# Altium schematic symbol library FPGA_Xilinx_Kintex7.SchLib: 18 symbols (part 3 of 6)
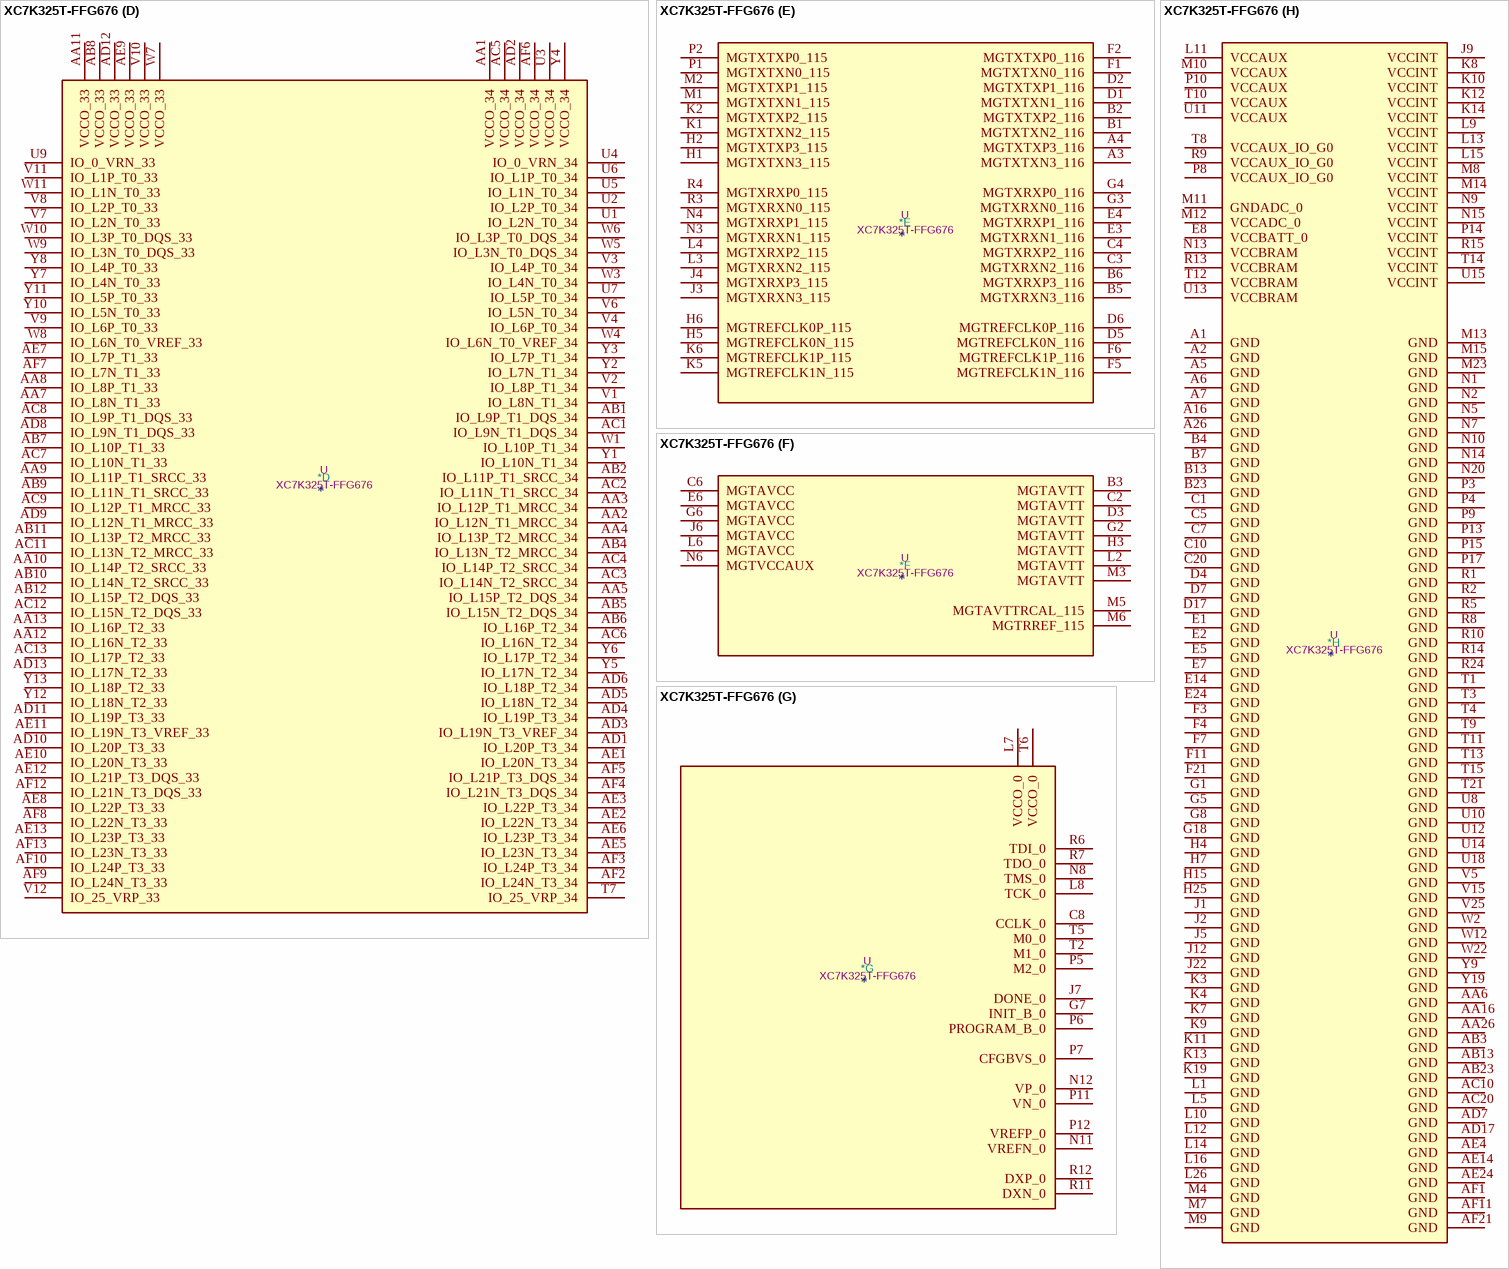
[diagram p54: symbol XC7K325T-FFG676]

## XC7K325T-FFG676
designator *  value XC7K325T-FFG676  Reference: U
Kintex 7 T 325 XC7K325T-FFG676; ki_keywords: FPGA; Description_: Kintex 7 T 325 XC7K325T-FFG676
part A pins: AA21 VCCO_12, AA22 IO_L13N_T2_MRCC_12, AA23 IO_L11P_T1_SRCC_12, AA24 IO_L12N_T1_MRCC_12, AA25 IO_L7P_T1_12, AB21 IO_L18P_T2_12, AB22 IO_L17P_T2_12, AB24 IO_L11N_T1_SRCC_12, AB25 IO_L7N_T1_12, AB26 IO_L9P_T1_DQS_12, AC21 IO_L18N_T2_12, AC22 IO_L17N_T2_12, AC23 IO_L14P_T2_SRCC_12, AC24 IO_L14N_T2_SRCC_12, AC25 VCCO_12, AC26 IO_L9N_T1_DQS_12, AD21 IO_L19P_T3_12, AD22 VCCO_12, AD23 IO_L16P_T2_12, AD24 IO_L16N_T2_12, AD25 IO_L23P_T3_12, AD26 IO_L21P_T3_DQS_12, AE21 IO_L19N_T3_VREF_12, AE22 IO_L24P_T3_12, AE23 IO_L22P_T3_12, AE25 IO_L23N_T3_12, AE26 IO_L21N_T3_DQS_12, AF22 IO_L24N_T3_12, AF23 IO_L22N_T3_12, AF24 IO_L20P_T3_12, AF25 IO_L20N_T3_12, AF26 VCCO_12, K24 VCCO_13, K25 IO_L1P_T0_13, K26 IO_L1N_T0_13, L24 IO_L8N_T1_13, L25 IO_L3N_T0_DQS_13, M19 IO_L22N_T3_13, M20 IO_L7N_T1_13, M21 IO_L10P_T1_13, M22 IO_L10N_T1_13, M24 IO_L8P_T1_13, M25 IO_L3P_T0_DQS_13, M26 IO_L5N_T0_13, N16 IO_0_13, N17 IO_L20N_T3_13, N18 IO_L22P_T3_13, N19 IO_L7P_T1_13, N21 IO_L12P_T1_MRCC_13, N22 IO_L12N_T1_MRCC_13, N23 IO_L11N_T1_SRCC_13, N24 IO_L4N_T0_13, N25 VCCO_13, N26 IO_L5P_T0_13, P16 IO_L20P_T3_13, P18 IO_L24N_T3_13, P19 IO_L9P_T1_DQS_13, P20 IO_L9N_T1_DQS_13, P21 IO_L13N_T2_MRCC_13, P22 VCCO_13, P23 IO_L11P_T1_SRCC_13, P24 IO_L4P_T0_13, P25 IO_L6N_T0_VREF_13, P26 IO_L2N_T0_13, R16 IO_L21P_T3_DQS_13, R17 IO_L21N_T3_DQS_13, R18 IO_L24P_T3_13, R19 VCCO_13, R20 IO_L16N_T2_13, R21 IO_L13P_T2_MRCC_13, R22 IO_L14P_T2_SRCC_13, R23 IO_L14N_T2_SRCC_13, R25 IO_L6P_T0_13, R26 IO_L2P_T0_13, T16 VCCO_13, T17 IO_L23N_T3_13, T18 IO_L19P_T3_13, T19 IO_L19N_T3_VREF_13, T20 IO_L16P_T2_13, T22 IO_L17P_T2_13, T23 IO_L17N_T2_13, T24 IO_L15P_T2_DQS_13, T25 IO_L15N_T2_DQS_13, T26 VCCO_13, U16 IO_25_13, U17 IO_L23P_T3_13, U19 IO_L18P_T2_13, U20 IO_L18N_T2_13, U21 IO_0_12, U22 IO_L1P_T0_12, U23 VCCO_12, U24 IO_L2P_T0_12, U25 IO_L2N_T0_12, U26 IO_L4P_T0_12, V20 VCCO_12, V21 IO_L6P_T0_12, V22 IO_L1N_T0_12, V23 IO_L3P_T0_DQS_12, V24 IO_L3N_T0_DQS_12, V26 IO_L4N_T0_12, W20 IO_L15P_T2_DQS_12, W21 IO_L6N_T0_VREF_12, W23 IO_L8P_T1_12, W24 IO_L8N_T1_12, W25 IO_L5P_T0_12, W26 IO_L5N_T0_12, Y20 IO_25_12, Y21 IO_L15N_T2_DQS_12, Y22 IO_L13P_T2_MRCC_12, Y23 IO_L12P_T1_MRCC_12, Y24 VCCO_12, Y25 IO_L10P_T1_12, Y26 IO_L10N_T1_12
part B pins: A17 IO_L3N_T0_DQS_AD1N_15, A18 IO_L2P_T0_AD8P_15, A19 IO_L2N_T0_AD8N_15, A20 IO_L8N_T1_D12_14, A21 VCCO_14, A22 IO_L2N_T0_D03_14, A23 IO_L4P_T0_D04_14, A24 IO_L4N_T0_D05_14, A25 IO_L1N_T0_D01_DIN_14, B16 IO_L1N_T0_AD0N_15, B17 IO_L3P_T0_DQS_AD1P_15, B18 VCCO_15, B19 IO_L4N_T0_AD9N_15, B20 IO_L8P_T1_D11_14, B21 IO_L10N_T1_D15_14, B22 IO_L2P_T0_D02_14, B24 IO_L1P_T0_D00_MOSI_14, B25 IO_L3P_T0_DQS_PUDC_B_14, B26 IO_L3N_T0_DQS_EMCCLK_14, C16 IO_L1P_T0_AD0P_15, C17 IO_L5P_T0_AD2P_15, C18 IO_L5N_T0_AD2N_15, C19 IO_L4P_T0_AD9P_15, C21 IO_L10P_T1_D14_14, C22 IO_L7N_T1_D10_14, C23 IO_L6P_T0_FCS_B_14, C24 IO_L6N_T0_D08_VREF_14, C25 VCCO_14, C26 IO_L5N_T0_D07_14, D15 IO_L6P_T0_15, D16 IO_L6N_T0_VREF_15, D18 IO_L13N_T2_MRCC_15, D19 IO_L15P_T2_DQS_15, D20 IO_L15N_T2_DQS_ADV_B_15, D21 IO_L7P_T1_D09_14, D22 VCCO_14, D23 IO_L11P_T1_SRCC_14, D24 IO_L11N_T1_SRCC_14, D25 IO_L15N_T2_DQS_DOUT_CSO_B_14, D26 IO_L5P_T0_D06_14, E15 IO_L10P_T1_AD4P_15, E16 IO_L10N_T1_AD4N_15, E17 IO_L12N_T1_MRCC_AD5N_15, E18 IO_L13P_T2_MRCC_15, E19 VCCO_15, E20 IO_L17N_T2_A25_15, E21 IO_L9P_T1_DQS_14, E22 IO_L9N_T1_DQS_D13_14, E23 IO_L12N_T1_MRCC_14, E25 IO_L15P_T2_DQS_RDWR_B_14, E26 IO_L17N_T2_A13_D29_14, F15 IO_L8N_T1_AD3N_15, F16 VCCO_15, F17 IO_L12P_T1_MRCC_AD5P_15, F18 IO_L11N_T1_SRCC_AD12N_15, F19 IO_L17P_T2_A26_15, F20 IO_L16N_T2_A27_15, F22 IO_L12P_T1_MRCC_14, F23 IO_L13N_T2_MRCC_14, F24 IO_L14N_T2_SRCC_14, F25 IO_L17P_T2_A14_D30_14, F26 VCCO_14, G15 IO_L8P_T1_AD3P_15, G16 IO_L7N_T1_AD10N_15, G17 IO_L11P_T1_SRCC_AD12P_15, G19 IO_L16P_T2_A28_15, G20 IO_L18N_T2_A23_15, G21 IO_L19N_T3_A09_D25_VREF_14, G22 IO_L13P_T2_MRCC_14, G23 VCCO_14, G24 IO_L14P_T2_SRCC_14, G25 IO_L16P_T2_CSI_B_14, G26 IO_L16N_T2_A15_D31_14, H16 IO_L7P_T1_AD10P_15, H17 IO_L14P_T2_SRCC_15, H18 IO_L14N_T2_SRCC_15, H19 IO_L18P_T2_A24_15, H20 VCCO_15, H21 IO_L19P_T3_A10_D26_14, H22 IO_L21N_T3_DQS_A06_D22_14, H23 IO_L20P_T3_A08_D24_14, H24 IO_L20N_T3_A07_D23_14, H26 IO_L18N_T2_A11_D27_14, J15 IO_L9P_T1_DQS_AD11P_15, J16 IO_L9N_T1_DQS_AD11N_15, J17 VCCO_15, J18 IO_L20P_T3_A20_15, J19 IO_L20N_T3_A19_15, J20 IO_L19N_T3_A21_VREF_15, J21 IO_L21P_T3_DQS_14, J23 IO_L24N_T3_A00_D16_14, J24 IO_L22P_T3_A05_D21_14, J25 IO_L22N_T3_A04_D20_14, J26 IO_L18P_T2_A12_D28_14, K15 IO_0_15, K16 IO_L22P_T3_A17_15, K17 IO_L22N_T3_A16_15, K18 IO_L24N_T3_RS0_15, K20 IO_L19P_T3_A22_15, K21 IO_0_14, K22 IO_L23N_T3_A02_D18_14, K23 IO_L24P_T3_A01_D17_14, L17 IO_L24P_T3_RS1_15, L18 IO_L23N_T3_FWE_B_15, L19 IO_L21P_T3_DQS_15, L20 IO_L21N_T3_DQS_A18_15, L21 VCCO_14, L22 IO_L23P_T3_A03_D19_14, L23 IO_25_14, M16 IO_25_15, M17 IO_L23P_T3_FOE_B_15, M18 VCCO_15
part C pins: A8 IO_L9N_T1_DQS_16, A9 IO_L9P_T1_DQS_16, A10 IO_L22N_T3_16, A11 VCCO_16, A12 IO_L24N_T3_16, A13 IO_L24P_T3_16, A14 IO_L21N_T3_DQS_16, A15 IO_L23N_T3_16, AA14 IO_L7P_T1_32, AA15 IO_L7N_T1_32, AA17 IO_L11P_T1_SRCC_32, AA18 IO_L11N_T1_SRCC_32, AA19 IO_L16P_T2_32, AA20 IO_L16N_T2_32, AB14 IO_L10P_T1_32, AB15 IO_L10N_T1_32, AB16 IO_L12P_T1_MRCC_32, AB17 IO_L14P_T2_SRCC_32, AB18 VCCO_32, AB19 IO_L18P_T2_32, AB20 IO_L18N_T2_32, AC14 IO_L8P_T1_32, AC15 VCCO_32, AC16 IO_L12N_T1_MRCC_32, AC17 IO_L14N_T2_SRCC_32, AC18 IO_L13P_T2_MRCC_32, AC19 IO_L17P_T2_32, AD14 IO_L8N_T1_32, AD15 IO_L4P_T0_32, AD16 IO_L6P_T0_32, AD18 IO_L13N_T2_MRCC_32, AD19 IO_L17N_T2_32, AD20 IO_L15P_T2_DQS_32, AE15 IO_L4N_T0_32, AE16 IO_L6N_T0_VREF_32, AE17 IO_L1P_T0_32, AE18 IO_L3P_T0_DQS_32, AE19 VCCO_32, AE20 IO_L15N_T2_DQS_32, AF14 IO_L2P_T0_32, AF15 IO_L2N_T0_32, AF16 VCCO_32, AF17 IO_L1N_T0_32, AF18 IO_L3N_T0_DQS_32, AF19 IO_L5P_T0_32, AF20 IO_L5N_T0_32, B8 VCCO_16, B9 IO_L10N_T1_16, B10 IO_L22P_T3_16, B11 IO_L20N_T3_16, B12 IO_L20P_T3_16, B14 IO_L21P_T3_DQS_16, B15 IO_L23P_T3_16, C9 IO_L10P_T1_16, C11 IO_L13N_T2_MRCC_16, C12 IO_L13P_T2_MRCC_16, C13 IO_L19N_T3_VREF_16, C14 IO_L19P_T3_16, C15 VCCO_16, D8 IO_L8N_T1_16, D9 IO_L8P_T1_16, D10 IO_L12N_T1_MRCC_16, D11 IO_L14N_T2_SRCC_16, D12 VCCO_16, D13 IO_L17N_T2_16, D14 IO_L17P_T2_16, E9 VCCO_16, E10 IO_L12P_T1_MRCC_16, E11 IO_L14P_T2_SRCC_16, E12 IO_L18N_T2_16, E13 IO_L18P_T2_16, F8 IO_L7N_T1_16, F9 IO_L7P_T1_16, F10 IO_L11N_T1_SRCC_16, F12 IO_L16N_T2_16, F13 IO_L15N_T2_DQS_16, F14 IO_L15P_T2_DQS_16, G9 IO_L2N_T0_16, G10 IO_L2P_T0_16, G11 IO_L11P_T1_SRCC_16, G12 IO_L16P_T2_16, G13 VCCO_16, G14 IO_L5N_T0_16, H8 IO_L1N_T0_16, H9 IO_L1P_T0_16, H10 VCCO_16, H11 IO_L6N_T0_VREF_16, H12 IO_L6P_T0_16, H13 IO_L3N_T0_DQS_16, H14 IO_L5P_T0_16, J8 IO_0_16, J10 IO_L4N_T0_16, J11 IO_L4P_T0_16, J13 IO_L3P_T0_DQS_16, J14 IO_25_16, V13 IO_0_VRN_32, V14 IO_L24P_T3_32, V16 IO_L20P_T3_32, V17 IO_L20N_T3_32, V18 IO_L23P_T3_32, V19 IO_L23N_T3_32, W13 IO_25_VRP_32, W14 IO_L24N_T3_32, W15 IO_L22P_T3_32, W16 IO_L22N_T3_32, W17 VCCO_32, W18 IO_L21P_T3_DQS_32, W19 IO_L21N_T3_DQS_32, Y14 VCCO_32, Y15 IO_L9P_T1_DQS_32, Y16 IO_L9N_T1_DQS_32, Y17 IO_L19P_T3_32, Y18 IO_L19N_T3_VREF_32
part D pins: AA1 VCCO_34, AA2 IO_L12N_T1_MRCC_34, AA3 IO_L12P_T1_MRCC_34, AA4 IO_L13P_T2_MRCC_34, AA5 IO_L15P_T2_DQS_34, AA7 IO_L8N_T1_33, AA8 IO_L8P_T1_33, AA9 IO_L11P_T1_SRCC_33, AA10 IO_L14P_T2_SRCC_33, AA11 VCCO_33, AA12 IO_L16N_T2_33, AA13 IO_L16P_T2_33, AB1 IO_L9P_T1_DQS_34, AB2 IO_L11P_T1_SRCC_34, AB4 IO_L13N_T2_MRCC_34, AB5 IO_L15N_T2_DQS_34, AB6 IO_L16P_T2_34, AB7 IO_L10P_T1_33, AB8 VCCO_33, AB9 IO_L11N_T1_SRCC_33, AB10 IO_L14N_T2_SRCC_33, AB11 IO_L13P_T2_MRCC_33, AB12 IO_L15P_T2_DQS_33, AC1 IO_L9N_T1_DQS_34, AC2 IO_L11N_T1_SRCC_34, AC3 IO_L14N_T2_SRCC_34, AC4 IO_L14P_T2_SRCC_34, AC5 VCCO_34, AC6 IO_L16N_T2_34, AC7 IO_L10N_T1_33, AC8 IO_L9P_T1_DQS_33, AC9 IO_L12P_T1_MRCC_33, AC11 IO_L13N_T2_MRCC_33, AC12 IO_L15N_T2_DQS_33, AC13 IO_L17P_T2_33, AD1 IO_L20P_T3_34, AD2 VCCO_34, AD3 IO_L19N_T3_VREF_34, AD4 IO_L19P_T3_34, AD5 IO_L18N_T2_34, AD6 IO_L18P_T2_34, AD8 IO_L9N_T1_DQS_33, AD9 IO_L12N_T1_MRCC_33, AD10 IO_L20P_T3_33, AD11 IO_L19P_T3_33, AD12 VCCO_33, AD13 IO_L17N_T2_33, AE1 IO_L20N_T3_34, AE2 IO_L22N_T3_34, AE3 IO_L22P_T3_34, AE5 IO_L23N_T3_34, AE6 IO_L23P_T3_34, AE7 IO_L7P_T1_33, AE8 IO_L22P_T3_33, AE9 VCCO_33, AE10 IO_L20N_T3_33, AE11 IO_L19N_T3_VREF_33, AE12 IO_L21P_T3_DQS_33, AE13 IO_L23P_T3_33, AF2 IO_L24N_T3_34, AF3 IO_L24P_T3_34, AF4 IO_L21N_T3_DQS_34, AF5 IO_L21P_T3_DQS_34, AF6 VCCO_34, AF7 IO_L7N_T1_33, AF8 IO_L22N_T3_33, AF9 IO_L24N_T3_33, AF10 IO_L24P_T3_33, AF12 IO_L21N_T3_DQS_33, AF13 IO_L23N_T3_33, T7 IO_25_VRP_34, U1 IO_L2N_T0_34, U2 IO_L2P_T0_34, U3 VCCO_34, U4 IO_0_VRN_34, U5 IO_L1N_T0_34, U6 IO_L1P_T0_34, U7 IO_L5P_T0_34, U9 IO_0_VRN_33, V1 IO_L8N_T1_34, V2 IO_L8P_T1_34, V3 IO_L4P_T0_34, V4 IO_L6P_T0_34, V6 IO_L5N_T0_34, V7 IO_L2N_T0_33, V8 IO_L2P_T0_33, V9 IO_L6P_T0_33, V10 VCCO_33, V11 IO_L1P_T0_33, V12 IO_25_VRP_33, W1 IO_L10P_T1_34, W3 IO_L4N_T0_34, W4 IO_L6N_T0_VREF_34, W5 IO_L3N_T0_DQS_34, W6 IO_L3P_T0_DQS_34, W7 VCCO_33, W8 IO_L6N_T0_VREF_33, W9 IO_L3N_T0_DQS_33, W10 IO_L3P_T0_DQS_33, W11 IO_L1N_T0_33, Y1 IO_L10N_T1_34, Y2 IO_L7N_T1_34, Y3 IO_L7P_T1_34, Y4 VCCO_34, Y5 IO_L17N_T2_34, Y6 IO_L17P_T2_34, Y7 IO_L4N_T0_33, Y8 IO_L4P_T0_33, Y10 IO_L5N_T0_33, Y11 IO_L5P_T0_33, Y12 IO_L18N_T2_33, Y13 IO_L18P_T2_33
part E pins: A3 MGTXTXN3_116, A4 MGTXTXP3_116, B1 MGTXTXN2_116, B2 MGTXTXP2_116, B5 MGTXRXN3_116, B6 MGTXRXP3_116, C3 MGTXRXN2_116, C4 MGTXRXP2_116, D1 MGTXTXN1_116, D2 MGTXTXP1_116, D5 MGTREFCLK0N_116, D6 MGTREFCLK0P_116, E3 MGTXRXN1_116, E4 MGTXRXP1_116, F1 MGTXTXN0_116, F2 MGTXTXP0_116, F5 MGTREFCLK1N_116, F6 MGTREFCLK1P_116, G3 MGTXRXN0_116, G4 MGTXRXP0_116, H1 MGTXTXN3_115, H2 MGTXTXP3_115, H5 MGTREFCLK0N_115, H6 MGTREFCLK0P_115, J3 MGTXRXN3_115, J4 MGTXRXP3_115, K1 MGTXTXN2_115, K2 MGTXTXP2_115, K5 MGTREFCLK1N_115, K6 MGTREFCLK1P_115, L3 MGTXRXN2_115, L4 MGTXRXP2_115, M1 MGTXTXN1_115, M2 MGTXTXP1_115, N3 MGTXRXN1_115, N4 MGTXRXP1_115, P1 MGTXTXN0_115, P2 MGTXTXP0_115, R3 MGTXRXN0_115, R4 MGTXRXP0_115
part F pins: B3 MGTAVTT, C2 MGTAVTT, C6 MGTAVCC, D3 MGTAVTT, E6 MGTAVCC, G2 MGTAVTT, G6 MGTAVCC, H3 MGTAVTT, J6 MGTAVCC, L2 MGTAVTT, L6 MGTAVCC, M3 MGTAVTT, M5 MGTAVTTRCAL_115, M6 MGTRREF_115, N6 MGTVCCAUX
part G pins: C8 CCLK_0, G7 INIT_B_0, J7 DONE_0, L7 VCCO_0, L8 TCK_0, N8 TMS_0, N11 VREFN_0, N12 VP_0, P5 M2_0, P6 PROGRAM_B_0, P7 CFGBVS_0, P11 VN_0, P12 VREFP_0, R6 TDI_0, R7 TDO_0, R11 DXN_0, R12 DXP_0, T2 M1_0, T5 M0_0, T6 VCCO_0
part H pins: A1 GND, A2 GND, A5 GND, A6 GND, A7 GND, A16 GND, A26 GND, AA6 GND, AA16 GND, AA26 GND, AB3 GND, AB13 GND, AB23 GND, AC10 GND, AC20 GND, AD7 GND, AD17 GND, AE4 GND, AE14 GND, AE24 GND, AF1 GND, AF11 GND, AF21 GND, B4 GND, B7 GND, B13 GND, B23 GND, C1 GND, C5 GND, C7 GND, C10 GND, C20 GND, D4 GND, D7 GND, D17 GND, E1 GND, E2 GND, E5 GND, E7 GND, E8 VCCBATT_0, E14 GND, E24 GND, F3 GND, F4 GND, F7 GND, F11 GND, F21 GND, G1 GND, G5 GND, G8 GND, G18 GND, H4 GND, H7 GND, H15 GND, H25 GND, J1 GND, J2 GND, J5 GND, J9 VCCINT, J12 GND, J22 GND, K3 GND, K4 GND, K7 GND, K8 VCCINT, K9 GND, K10 VCCINT, K11 GND, K12 VCCINT, K13 GND, K14 VCCINT, K19 GND, L1 GND, L5 GND, L9 VCCINT, L10 GND, L11 VCCAUX, L12 GND, L13 VCCINT, L14 GND, L15 VCCINT, L16 GND, L26 GND, M4 GND, M7 GND, M8 VCCINT, M9 GND, M10 VCCAUX, M11 GNDADC_0, M12 VCCADC_0, M13 GND, M14 VCCINT, M15 GND, M23 GND, N1 GND, N2 GND, N5 GND, N7 GND, N9 VCCINT, N10 GND, N13 VCCBRAM, N14 GND, N15 VCCINT, N20 GND, P3 GND, P4 GND, P8 VCCAUX_IO_G0, P9 GND, P10 VCCAUX, P13 GND, P14 VCCINT, P15 GND, P17 GND, R1 GND, R2 GND, R5 GND, R8 GND, R9 VCCAUX_IO_G0, R10 GND, R13 VCCBRAM, R14 GND, R15 VCCINT, R24 GND, T1 GND, T3 GND, T4 GND, T8 VCCAUX_IO_G0, T9 GND, T10 VCCAUX, T11 GND, T12 VCCBRAM, T13 GND, T14 VCCINT, T15 GND, T21 GND, U8 GND, U10 GND, U11 VCCAUX, U12 GND, U13 VCCBRAM, U14 GND, U15 VCCINT, U18 GND, V5 GND, V15 GND, V25 GND, W2 GND, W12 GND, W22 GND, Y9 GND, Y19 GND

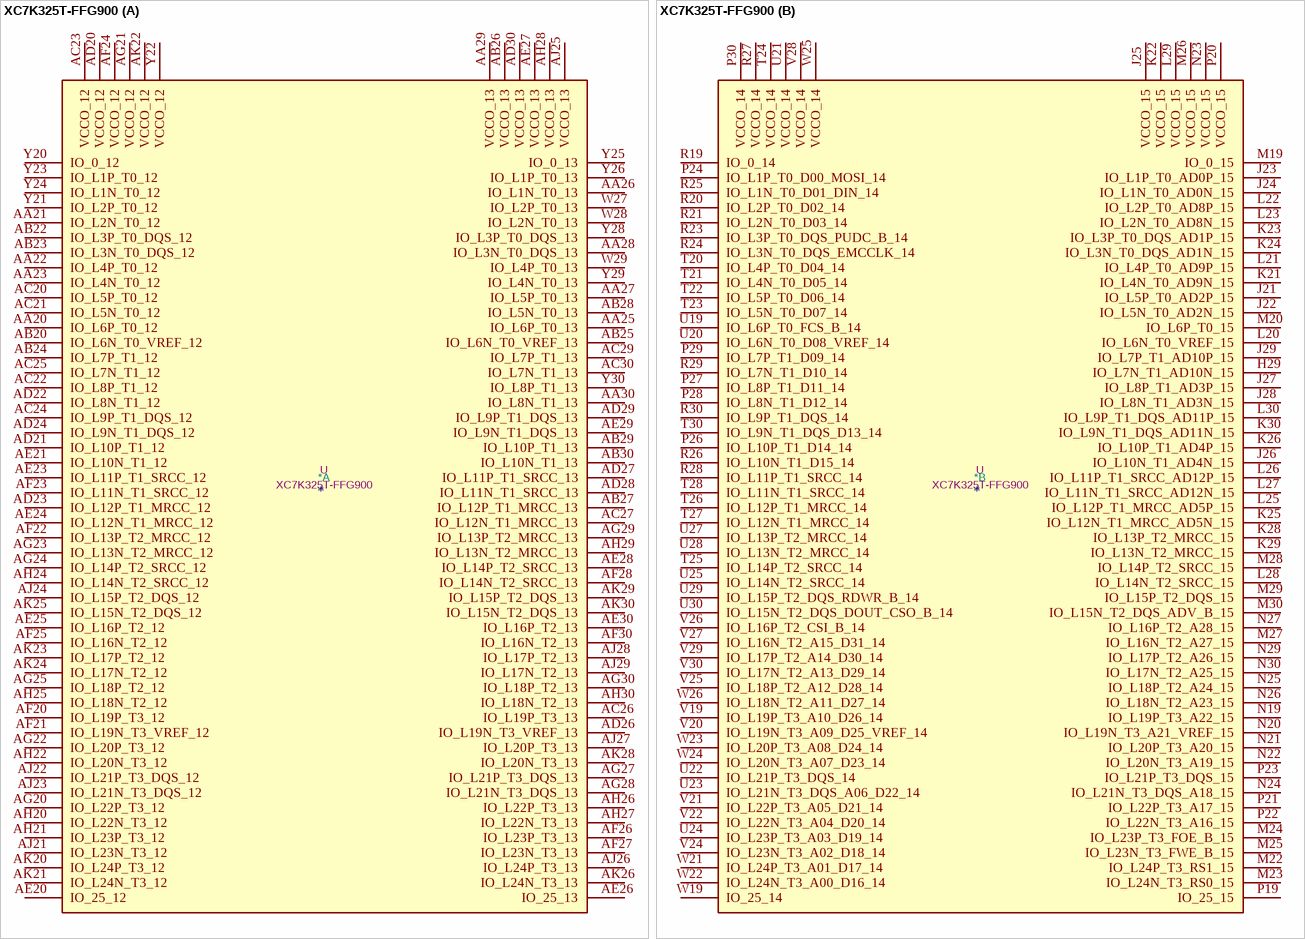
[diagram p20: symbol XC7K325T-FFG900]

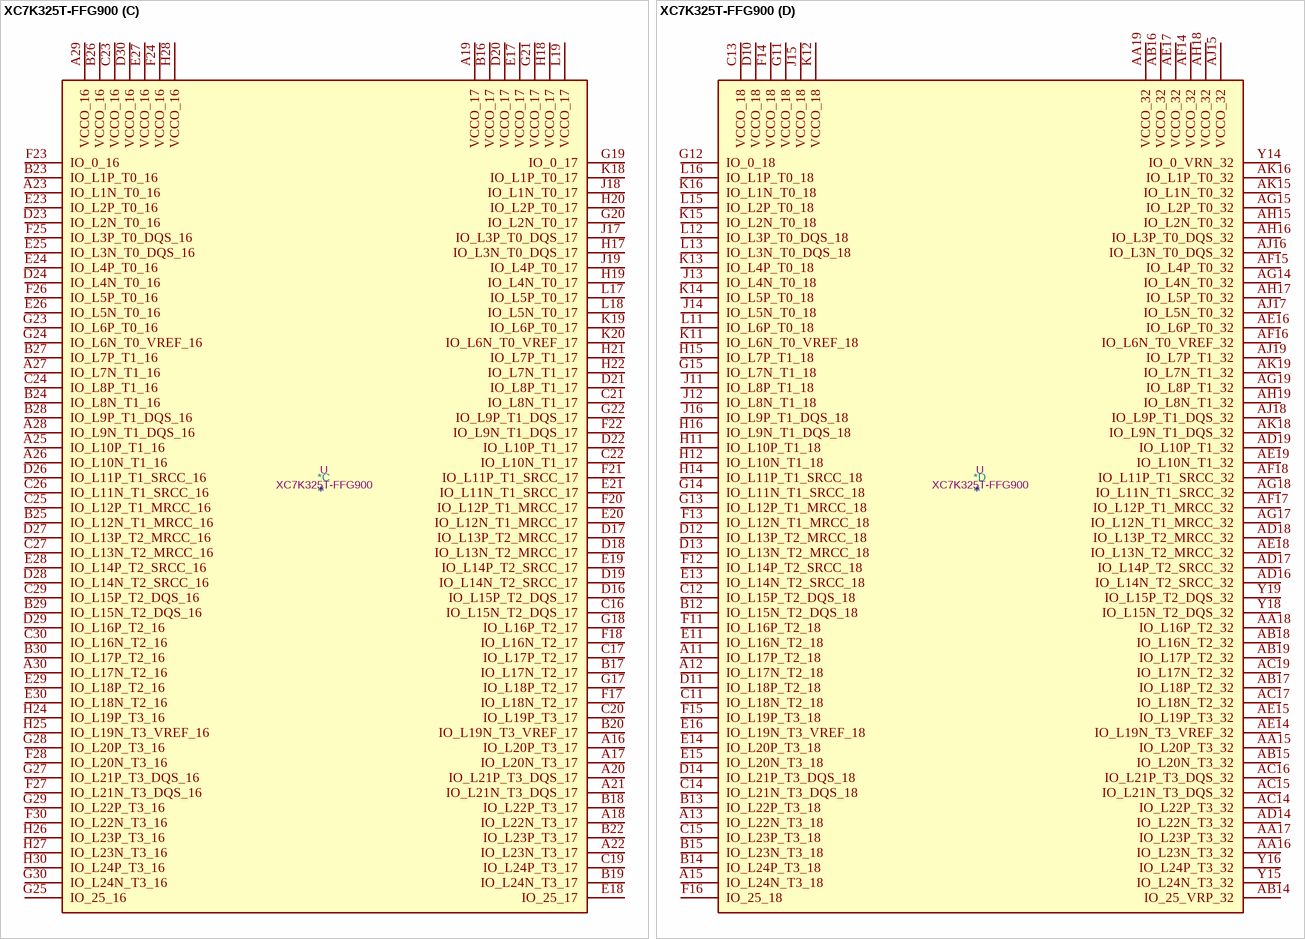
[diagram p21: symbol XC7K325T-FFG900]

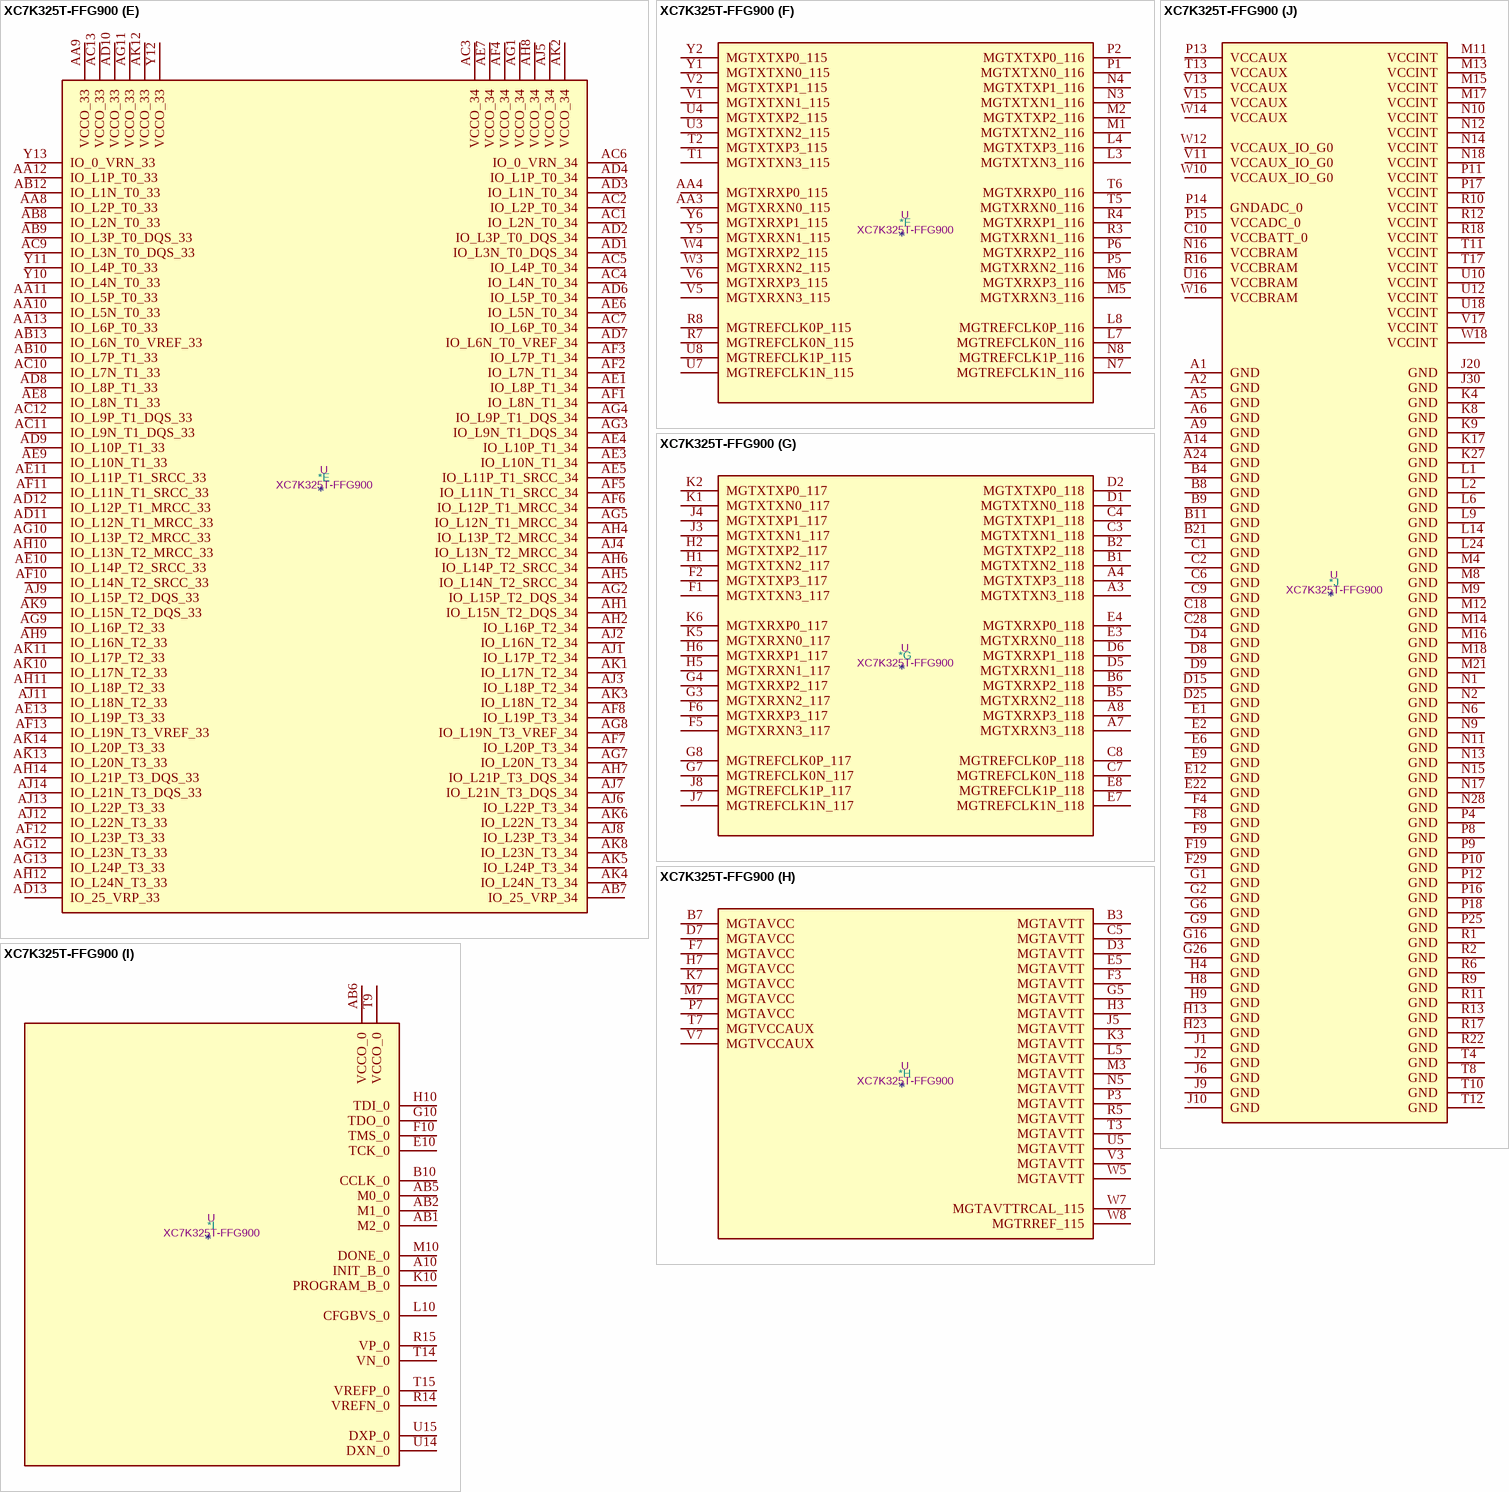
[diagram p22: symbol XC7K325T-FFG900]

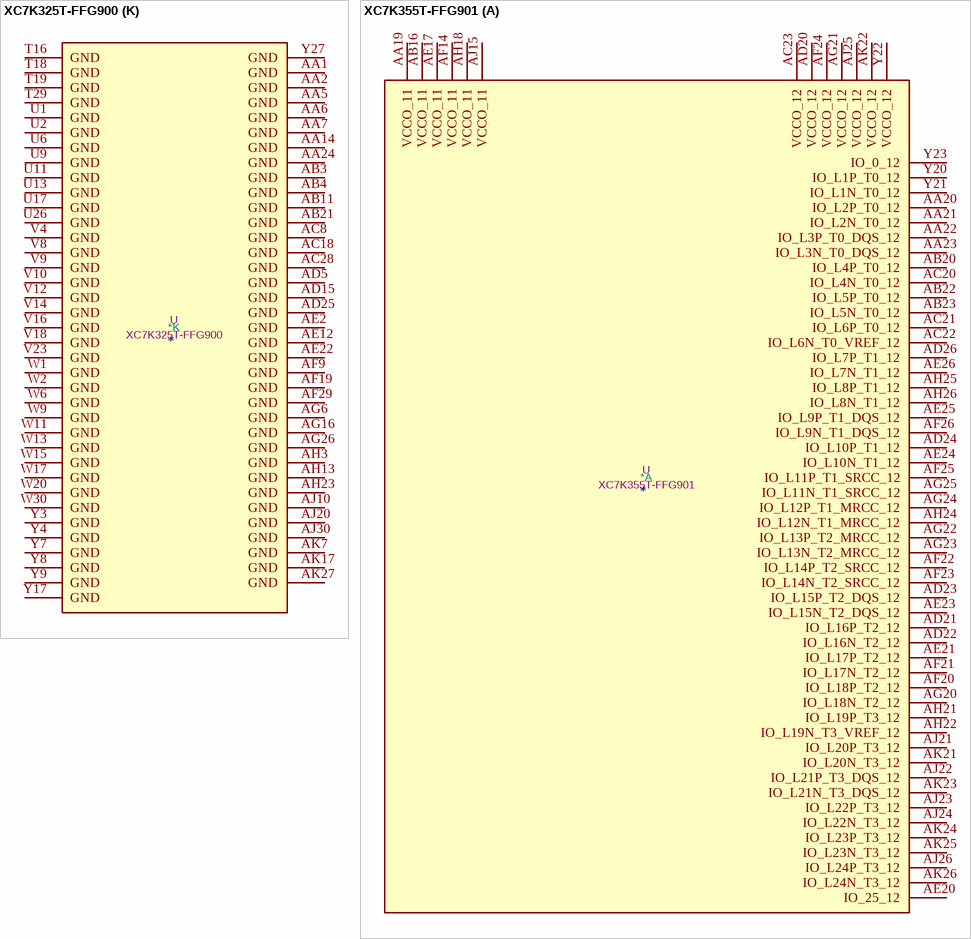
[diagram p23: symbols XC7K325T-FFG900 to XC7K355T-FFG901]

## XC7K325T-FFG900
designator *  value XC7K325T-FFG900  Reference: U
Kintex 7 T 325 XC7K325T-FFG900; ki_keywords: FPGA; Description_: Kintex 7 T 325 XC7K325T-FFG900
part A pins: AA20 IO_L6P_T0_12, AA21 IO_L2N_T0_12, AA22 IO_L4P_T0_12, AA23 IO_L4N_T0_12, AA25 IO_L6P_T0_13, AA26 IO_L1N_T0_13, AA27 IO_L5P_T0_13, AA28 IO_L3N_T0_DQS_13, AA29 VCCO_13, AA30 IO_L8N_T1_13, AB20 IO_L6N_T0_VREF_12, AB22 IO_L3P_T0_DQS_12, AB23 IO_L3N_T0_DQS_12, AB24 IO_L7P_T1_12, AB25 IO_L6N_T0_VREF_13, AB26 VCCO_13, AB27 IO_L12P_T1_MRCC_13, AB28 IO_L5N_T0_13, AB29 IO_L10P_T1_13, AB30 IO_L10N_T1_13, AC20 IO_L5P_T0_12, AC21 IO_L5N_T0_12, AC22 IO_L8P_T1_12, AC23 VCCO_12, AC24 IO_L9P_T1_DQS_12, AC25 IO_L7N_T1_12, AC26 IO_L19P_T3_13, AC27 IO_L12N_T1_MRCC_13, AC29 IO_L7P_T1_13, AC30 IO_L7N_T1_13, AD20 VCCO_12, AD21 IO_L10P_T1_12, AD22 IO_L8N_T1_12, AD23 IO_L12P_T1_MRCC_12, AD24 IO_L9N_T1_DQS_12, AD26 IO_L19N_T3_VREF_13, AD27 IO_L11P_T1_SRCC_13, AD28 IO_L11N_T1_SRCC_13, AD29 IO_L9P_T1_DQS_13, AD30 VCCO_13, AE20 IO_25_12, AE21 IO_L10N_T1_12, AE23 IO_L11P_T1_SRCC_12, AE24 IO_L12N_T1_MRCC_12, AE25 IO_L16P_T2_12, AE26 IO_25_13, AE27 VCCO_13, AE28 IO_L14P_T2_SRCC_13, AE29 IO_L9N_T1_DQS_13, AE30 IO_L16P_T2_13, AF20 IO_L19P_T3_12, AF21 IO_L19N_T3_VREF_12, AF22 IO_L13P_T2_MRCC_12, AF23 IO_L11N_T1_SRCC_12, AF24 VCCO_12, AF25 IO_L16N_T2_12, AF26 IO_L23P_T3_13, AF27 IO_L23N_T3_13, AF28 IO_L14N_T2_SRCC_13, AF30 IO_L16N_T2_13, AG20 IO_L22P_T3_12, AG21 VCCO_12, AG22 IO_L20P_T3_12, AG23 IO_L13N_T2_MRCC_12, AG24 IO_L14P_T2_SRCC_12, AG25 IO_L18P_T2_12, AG27 IO_L21P_T3_DQS_13, AG28 IO_L21N_T3_DQS_13, AG29 IO_L13P_T2_MRCC_13, AG30 IO_L18P_T2_13, AH20 IO_L22N_T3_12, AH21 IO_L23P_T3_12, AH22 IO_L20N_T3_12, AH24 IO_L14N_T2_SRCC_12, AH25 IO_L18N_T2_12, AH26 IO_L22P_T3_13, AH27 IO_L22N_T3_13, AH28 VCCO_13, AH29 IO_L13N_T2_MRCC_13, AH30 IO_L18N_T2_13, AJ21 IO_L23N_T3_12, AJ22 IO_L21P_T3_DQS_12, AJ23 IO_L21N_T3_DQS_12, AJ24 IO_L15P_T2_DQS_12, AJ25 VCCO_13, AJ26 IO_L24P_T3_13, AJ27 IO_L20P_T3_13, AJ28 IO_L17P_T2_13, AJ29 IO_L17N_T2_13, AK20 IO_L24P_T3_12, AK21 IO_L24N_T3_12, AK22 VCCO_12, AK23 IO_L17P_T2_12, AK24 IO_L17N_T2_12, AK25 IO_L15N_T2_DQS_12, AK26 IO_L24N_T3_13, AK28 IO_L20N_T3_13, AK29 IO_L15P_T2_DQS_13, AK30 IO_L15N_T2_DQS_13, W27 IO_L2P_T0_13, W28 IO_L2N_T0_13, W29 IO_L4P_T0_13, Y20 IO_0_12, Y21 IO_L2P_T0_12, Y22 VCCO_12, Y23 IO_L1P_T0_12, Y24 IO_L1N_T0_12, Y25 IO_0_13, Y26 IO_L1P_T0_13, Y28 IO_L3P_T0_DQS_13, Y29 IO_L4N_T0_13, Y30 IO_L8P_T1_13
part B pins: H29 IO_L7N_T1_AD10N_15, J21 IO_L5P_T0_AD2P_15, J22 IO_L5N_T0_AD2N_15, J23 IO_L1P_T0_AD0P_15, J24 IO_L1N_T0_AD0N_15, J25 VCCO_15, J26 IO_L10N_T1_AD4N_15, J27 IO_L8P_T1_AD3P_15, J28 IO_L8N_T1_AD3N_15, J29 IO_L7P_T1_AD10P_15, K21 IO_L4N_T0_AD9N_15, K22 VCCO_15, K23 IO_L3P_T0_DQS_AD1P_15, K24 IO_L3N_T0_DQS_AD1N_15, K25 IO_L12N_T1_MRCC_AD5N_15, K26 IO_L10P_T1_AD4P_15, K28 IO_L13P_T2_MRCC_15, K29 IO_L13N_T2_MRCC_15, K30 IO_L9N_T1_DQS_AD11N_15, L20 IO_L6N_T0_VREF_15, L21 IO_L4P_T0_AD9P_15, L22 IO_L2P_T0_AD8P_15, L23 IO_L2N_T0_AD8N_15, L25 IO_L12P_T1_MRCC_AD5P_15, L26 IO_L11P_T1_SRCC_AD12P_15, L27 IO_L11N_T1_SRCC_AD12N_15, L28 IO_L14N_T2_SRCC_15, L29 VCCO_15, L30 IO_L9P_T1_DQS_AD11P_15, M19 IO_0_15, M20 IO_L6P_T0_15, M22 IO_L24P_T3_RS1_15, M23 IO_L24N_T3_RS0_15, M24 IO_L23P_T3_FOE_B_15, M25 IO_L23N_T3_FWE_B_15, M26 VCCO_15, M27 IO_L16N_T2_A27_15, M28 IO_L14P_T2_SRCC_15, M29 IO_L15P_T2_DQS_15, M30 IO_L15N_T2_DQS_ADV_B_15, N19 IO_L19P_T3_A22_15, N20 IO_L19N_T3_A21_VREF_15, N21 IO_L20P_T3_A20_15, N22 IO_L20N_T3_A19_15, N23 VCCO_15, N24 IO_L21N_T3_DQS_A18_15, N25 IO_L18P_T2_A24_15, N26 IO_L18N_T2_A23_15, N27 IO_L16P_T2_A28_15, N29 IO_L17P_T2_A26_15, N30 IO_L17N_T2_A25_15, P19 IO_25_15, P20 VCCO_15, P21 IO_L22P_T3_A17_15, P22 IO_L22N_T3_A16_15, P23 IO_L21P_T3_DQS_15, P24 IO_L1P_T0_D00_MOSI_14, P26 IO_L10P_T1_D14_14, P27 IO_L8P_T1_D11_14, P28 IO_L8N_T1_D12_14, P29 IO_L7P_T1_D09_14, P30 VCCO_14, R19 IO_0_14, R20 IO_L2P_T0_D02_14, R21 IO_L2N_T0_D03_14, R23 IO_L3P_T0_DQS_PUDC_B_14, R24 IO_L3N_T0_DQS_EMCCLK_14, R25 IO_L1N_T0_D01_DIN_14, R26 IO_L10N_T1_D15_14, R27 VCCO_14, R28 IO_L11P_T1_SRCC_14, R29 IO_L7N_T1_D10_14, R30 IO_L9P_T1_DQS_14, T20 IO_L4P_T0_D04_14, T21 IO_L4N_T0_D05_14, T22 IO_L5P_T0_D06_14, T23 IO_L5N_T0_D07_14, T24 VCCO_14, T25 IO_L14P_T2_SRCC_14, T26 IO_L12P_T1_MRCC_14, T27 IO_L12N_T1_MRCC_14, T28 IO_L11N_T1_SRCC_14, T30 IO_L9N_T1_DQS_D13_14, U19 IO_L6P_T0_FCS_B_14, U20 IO_L6N_T0_D08_VREF_14, U21 VCCO_14, U22 IO_L21P_T3_DQS_14, U23 IO_L21N_T3_DQS_A06_D22_14, U24 IO_L23P_T3_A03_D19_14, U25 IO_L14N_T2_SRCC_14, U27 IO_L13P_T2_MRCC_14, U28 IO_L13N_T2_MRCC_14, U29 IO_L15P_T2_DQS_RDWR_B_14, U30 IO_L15N_T2_DQS_DOUT_CSO_B_14, V19 IO_L19P_T3_A10_D26_14, V20 IO_L19N_T3_A09_D25_VREF_14, V21 IO_L22P_T3_A05_D21_14, V22 IO_L22N_T3_A04_D20_14, V24 IO_L23N_T3_A02_D18_14, V25 IO_L18P_T2_A12_D28_14, V26 IO_L16P_T2_CSI_B_14, V27 IO_L16N_T2_A15_D31_14, V28 VCCO_14, V29 IO_L17P_T2_A14_D30_14, V30 IO_L17N_T2_A13_D29_14, W19 IO_25_14, W21 IO_L24P_T3_A01_D17_14, W22 IO_L24N_T3_A00_D16_14, W23 IO_L20P_T3_A08_D24_14, W24 IO_L20N_T3_A07_D23_14, W25 VCCO_14, W26 IO_L18N_T2_A11_D27_14
part C pins: A16 IO_L20P_T3_17, A17 IO_L20N_T3_17, A18 IO_L22N_T3_17, A19 VCCO_17, A20 IO_L21P_T3_DQS_17, A21 IO_L21N_T3_DQS_17, A22 IO_L23N_T3_17, A23 IO_L1N_T0_16, A25 IO_L10P_T1_16, A26 IO_L10N_T1_16, A27 IO_L7N_T1_16, A28 IO_L9N_T1_DQS_16, A29 VCCO_16, A30 IO_L17N_T2_16, B16 VCCO_17, B17 IO_L17N_T2_17, B18 IO_L22P_T3_17, B19 IO_L24N_T3_17, B20 IO_L19N_T3_VREF_17, B22 IO_L23P_T3_17, B23 IO_L1P_T0_16, B24 IO_L8N_T1_16, B25 IO_L12N_T1_MRCC_16, B26 VCCO_16, B27 IO_L7P_T1_16, B28 IO_L9P_T1_DQS_16, B29 IO_L15N_T2_DQS_16, B30 IO_L17P_T2_16, C16 IO_L15N_T2_DQS_17, C17 IO_L17P_T2_17, C19 IO_L24P_T3_17, C20 IO_L19P_T3_17, C21 IO_L8N_T1_17, C22 IO_L10N_T1_17, C23 VCCO_16, C24 IO_L8P_T1_16, C25 IO_L12P_T1_MRCC_16, C26 IO_L11N_T1_SRCC_16, C27 IO_L13N_T2_MRCC_16, C29 IO_L15P_T2_DQS_16, C30 IO_L16N_T2_16, D16 IO_L15P_T2_DQS_17, D17 IO_L13P_T2_MRCC_17, D18 IO_L13N_T2_MRCC_17, D19 IO_L14N_T2_SRCC_17, D20 VCCO_17, D21 IO_L8P_T1_17, D22 IO_L10P_T1_17, D23 IO_L2N_T0_16, D24 IO_L4N_T0_16, D26 IO_L11P_T1_SRCC_16, D27 IO_L13P_T2_MRCC_16, D28 IO_L14N_T2_SRCC_16, D29 IO_L16P_T2_16, D30 VCCO_16, E17 VCCO_17, E18 IO_25_17, E19 IO_L14P_T2_SRCC_17, E20 IO_L12N_T1_MRCC_17, E21 IO_L11N_T1_SRCC_17, E23 IO_L2P_T0_16, E24 IO_L4P_T0_16, E25 IO_L3N_T0_DQS_16, E26 IO_L5N_T0_16, E27 VCCO_16, E28 IO_L14P_T2_SRCC_16, E29 IO_L18P_T2_16, E30 IO_L18N_T2_16, F17 IO_L18N_T2_17, F18 IO_L16N_T2_17, F20 IO_L12P_T1_MRCC_17, F21 IO_L11P_T1_SRCC_17, F22 IO_L9N_T1_DQS_17, F23 IO_0_16, F24 VCCO_16, F25 IO_L3P_T0_DQS_16, F26 IO_L5P_T0_16, F27 IO_L21N_T3_DQS_16, F28 IO_L20N_T3_16, F30 IO_L22N_T3_16, G17 IO_L18P_T2_17, G18 IO_L16P_T2_17, G19 IO_0_17, G20 IO_L2N_T0_17, G21 VCCO_17, G22 IO_L9P_T1_DQS_17, G23 IO_L6P_T0_16, G24 IO_L6N_T0_VREF_16, G25 IO_25_16, G27 IO_L21P_T3_DQS_16, G28 IO_L20P_T3_16, G29 IO_L22P_T3_16, G30 IO_L24N_T3_16, H17 IO_L3N_T0_DQS_17, H18 VCCO_17, H19 IO_L4N_T0_17, H20 IO_L2P_T0_17, H21 IO_L7P_T1_17, H22 IO_L7N_T1_17, H24 IO_L19P_T3_16, H25 IO_L19N_T3_VREF_16, H26 IO_L23P_T3_16, H27 IO_L23N_T3_16, H28 VCCO_16, H30 IO_L24P_T3_16, J17 IO_L3P_T0_DQS_17, J18 IO_L1N_T0_17, J19 IO_L4P_T0_17, K18 IO_L1P_T0_17, K19 IO_L6P_T0_17, K20 IO_L6N_T0_VREF_17, L17 IO_L5P_T0_17, L18 IO_L5N_T0_17, L19 VCCO_17
part D pins: A11 IO_L17P_T2_18, A12 IO_L17N_T2_18, A13 IO_L22N_T3_18, A15 IO_L24N_T3_18, AA15 IO_L20P_T3_32, AA16 IO_L23N_T3_32, AA17 IO_L23P_T3_32, AA18 IO_L16P_T2_32, AA19 VCCO_32, AB14 IO_25_VRP_32, AB15 IO_L20N_T3_32, AB16 VCCO_32, AB17 IO_L18P_T2_32, AB18 IO_L16N_T2_32, AB19 IO_L17P_T2_32, AC14 IO_L22P_T3_32, AC15 IO_L21N_T3_DQS_32, AC16 IO_L21P_T3_DQS_32, AC17 IO_L18N_T2_32, AC19 IO_L17N_T2_32, AD14 IO_L22N_T3_32, AD16 IO_L14N_T2_SRCC_32, AD17 IO_L14P_T2_SRCC_32, AD18 IO_L13P_T2_MRCC_32, AD19 IO_L10P_T1_32, AE14 IO_L19N_T3_VREF_32, AE15 IO_L19P_T3_32, AE16 IO_L6P_T0_32, AE17 VCCO_32, AE18 IO_L13N_T2_MRCC_32, AE19 IO_L10N_T1_32, AF14 VCCO_32, AF15 IO_L4P_T0_32, AF16 IO_L6N_T0_VREF_32, AF17 IO_L12P_T1_MRCC_32, AF18 IO_L11P_T1_SRCC_32, AG14 IO_L4N_T0_32, AG15 IO_L2P_T0_32, AG17 IO_L12N_T1_MRCC_32, AG18 IO_L11N_T1_SRCC_32, AG19 IO_L8P_T1_32, AH15 IO_L2N_T0_32, AH16 IO_L3P_T0_DQS_32, AH17 IO_L5P_T0_32, AH18 VCCO_32, AH19 IO_L8N_T1_32, AJ15 VCCO_32, AJ16 IO_L3N_T0_DQS_32, AJ17 IO_L5N_T0_32, AJ18 IO_L9P_T1_DQS_32, AJ19 IO_L7P_T1_32, AK15 IO_L1N_T0_32, AK16 IO_L1P_T0_32, AK18 IO_L9N_T1_DQS_32, AK19 IO_L7N_T1_32, B12 IO_L15N_T2_DQS_18, B13 IO_L22P_T3_18, B14 IO_L24P_T3_18, B15 IO_L23N_T3_18, C11 IO_L18N_T2_18, C12 IO_L15P_T2_DQS_18, C13 VCCO_18, C14 IO_L21N_T3_DQS_18, C15 IO_L23P_T3_18, D10 VCCO_18, D11 IO_L18P_T2_18, D12 IO_L13P_T2_MRCC_18, D13 IO_L13N_T2_MRCC_18, D14 IO_L21P_T3_DQS_18, E11 IO_L16N_T2_18, E13 IO_L14N_T2_SRCC_18, E14 IO_L20P_T3_18, E15 IO_L20N_T3_18, E16 IO_L19N_T3_VREF_18, F11 IO_L16P_T2_18, F12 IO_L14P_T2_SRCC_18, F13 IO_L12N_T1_MRCC_18, F14 VCCO_18, F15 IO_L19P_T3_18, F16 IO_25_18, G11 VCCO_18, G12 IO_0_18, G13 IO_L12P_T1_MRCC_18, G14 IO_L11N_T1_SRCC_18, G15 IO_L7N_T1_18, H11 IO_L10P_T1_18, H12 IO_L10N_T1_18, H14 IO_L11P_T1_SRCC_18, H15 IO_L7P_T1_18, H16 IO_L9N_T1_DQS_18, J11 IO_L8P_T1_18, J12 IO_L8N_T1_18, J13 IO_L4N_T0_18, J14 IO_L5N_T0_18, J15 VCCO_18, J16 IO_L9P_T1_DQS_18, K11 IO_L6N_T0_VREF_18, K12 VCCO_18, K13 IO_L4P_T0_18, K14 IO_L5P_T0_18, K15 IO_L2N_T0_18, K16 IO_L1N_T0_18, L11 IO_L6P_T0_18, L12 IO_L3P_T0_DQS_18, L13 IO_L3N_T0_DQS_18, L15 IO_L2P_T0_18, L16 IO_L1P_T0_18, Y14 IO_0_VRN_32, Y15 IO_L24N_T3_32, Y16 IO_L24P_T3_32, Y18 IO_L15N_T2_DQS_32, Y19 IO_L15P_T2_DQS_32
part E pins: AA8 IO_L2P_T0_33, AA9 VCCO_33, AA10 IO_L5N_T0_33, AA11 IO_L5P_T0_33, AA12 IO_L1P_T0_33, AA13 IO_L6P_T0_33, AB7 IO_25_VRP_34, AB8 IO_L2N_T0_33, AB9 IO_L3P_T0_DQS_33, AB10 IO_L7P_T1_33, AB12 IO_L1N_T0_33, AB13 IO_L6N_T0_VREF_33, AC1 IO_L2N_T0_34, AC2 IO_L2P_T0_34, AC3 VCCO_34, AC4 IO_L4N_T0_34, AC5 IO_L4P_T0_34, AC6 IO_0_VRN_34, AC7 IO_L6P_T0_34, AC9 IO_L3N_T0_DQS_33, AC10 IO_L7N_T1_33, AC11 IO_L9N_T1_DQS_33, AC12 IO_L9P_T1_DQS_33, AC13 VCCO_33, AD1 IO_L3N_T0_DQS_34, AD2 IO_L3P_T0_DQS_34, AD3 IO_L1N_T0_34, AD4 IO_L1P_T0_34, AD6 IO_L5P_T0_34, AD7 IO_L6N_T0_VREF_34, AD8 IO_L8P_T1_33, AD9 IO_L10P_T1_33, AD10 VCCO_33, AD11 IO_L12N_T1_MRCC_33, AD12 IO_L12P_T1_MRCC_33, AD13 IO_25_VRP_33, AE1 IO_L8P_T1_34, AE3 IO_L10N_T1_34, AE4 IO_L10P_T1_34, AE5 IO_L11P_T1_SRCC_34, AE6 IO_L5N_T0_34, AE7 VCCO_34, AE8 IO_L8N_T1_33, AE9 IO_L10N_T1_33, AE10 IO_L14P_T2_SRCC_33, AE11 IO_L11P_T1_SRCC_33, AE13 IO_L19P_T3_33, AF1 IO_L8N_T1_34, AF2 IO_L7N_T1_34, AF3 IO_L7P_T1_34, AF4 VCCO_34, AF5 IO_L11N_T1_SRCC_34, AF6 IO_L12P_T1_MRCC_34, AF7 IO_L20P_T3_34, AF8 IO_L19P_T3_34, AF10 IO_L14N_T2_SRCC_33, AF11 IO_L11N_T1_SRCC_33, AF12 IO_L23P_T3_33, AF13 IO_L19N_T3_VREF_33, AG1 VCCO_34, AG2 IO_L15P_T2_DQS_34, AG3 IO_L9N_T1_DQS_34, AG4 IO_L9P_T1_DQS_34, AG5 IO_L12N_T1_MRCC_34, AG7 IO_L20N_T3_34, AG8 IO_L19N_T3_VREF_34, AG9 IO_L16P_T2_33, AG10 IO_L13P_T2_MRCC_33, AG11 VCCO_33, AG12 IO_L23N_T3_33, AG13 IO_L24P_T3_33, AH1 IO_L15N_T2_DQS_34, AH2 IO_L16P_T2_34, AH4 IO_L13P_T2_MRCC_34, AH5 IO_L14N_T2_SRCC_34, AH6 IO_L14P_T2_SRCC_34, AH7 IO_L21P_T3_DQS_34, AH8 VCCO_34, AH9 IO_L16N_T2_33, AH10 IO_L13N_T2_MRCC_33, AH11 IO_L18P_T2_33, AH12 IO_L24N_T3_33, AH14 IO_L21P_T3_DQS_33, AJ1 IO_L17P_T2_34, AJ2 IO_L16N_T2_34, AJ3 IO_L18P_T2_34, AJ4 IO_L13N_T2_MRCC_34, AJ5 VCCO_34, AJ6 IO_L22P_T3_34, AJ7 IO_L21N_T3_DQS_34, AJ8 IO_L23P_T3_34, AJ9 IO_L15P_T2_DQS_33, AJ11 IO_L18N_T2_33, AJ12 IO_L22N_T3_33, AJ13 IO_L22P_T3_33, AJ14 IO_L21N_T3_DQS_33, AK1 IO_L17N_T2_34, AK2 VCCO_34, AK3 IO_L18N_T2_34, AK4 IO_L24N_T3_34, AK5 IO_L24P_T3_34, AK6 IO_L22N_T3_34, AK8 IO_L23N_T3_34, AK9 IO_L15N_T2_DQS_33, AK10 IO_L17N_T2_33, AK11 IO_L17P_T2_33, AK12 VCCO_33, AK13 IO_L20N_T3_33, AK14 IO_L20P_T3_33, Y10 IO_L4N_T0_33, Y11 IO_L4P_T0_33, Y12 VCCO_33, Y13 IO_0_VRN_33
part F pins: AA3 MGTXRXN0_115, AA4 MGTXRXP0_115, L3 MGTXTXN3_116, L4 MGTXTXP3_116, L7 MGTREFCLK0N_116, L8 MGTREFCLK0P_116, M1 MGTXTXN2_116, M2 MGTXTXP2_116, M5 MGTXRXN3_116, M6 MGTXRXP3_116, N3 MGTXTXN1_116, N4 MGTXTXP1_116, N7 MGTREFCLK1N_116, N8 MGTREFCLK1P_116, P1 MGTXTXN0_116, P2 MGTXTXP0_116, P5 MGTXRXN2_116, P6 MGTXRXP2_116, R3 MGTXRXN1_116, R4 MGTXRXP1_116, R7 MGTREFCLK0N_115, R8 MGTREFCLK0P_115, T1 MGTXTXN3_115, T2 MGTXTXP3_115, T5 MGTXRXN0_116, T6 MGTXRXP0_116, U3 MGTXTXN2_115, U4 MGTXTXP2_115, U7 MGTREFCLK1N_115, U8 MGTREFCLK1P_115, V1 MGTXTXN1_115, V2 MGTXTXP1_115, V5 MGTXRXN3_115, V6 MGTXRXP3_115, W3 MGTXRXN2_115, W4 MGTXRXP2_115, Y1 MGTXTXN0_115, Y2 MGTXTXP0_115, Y5 MGTXRXN1_115, Y6 MGTXRXP1_115
part G pins: A3 MGTXTXN3_118, A4 MGTXTXP3_118, A7 MGTXRXN3_118, A8 MGTXRXP3_118, B1 MGTXTXN2_118, B2 MGTXTXP2_118, B5 MGTXRXN2_118, B6 MGTXRXP2_118, C3 MGTXTXN1_118, C4 MGTXTXP1_118, C7 MGTREFCLK0N_118, C8 MGTREFCLK0P_118, D1 MGTXTXN0_118, D2 MGTXTXP0_118, D5 MGTXRXN1_118, D6 MGTXRXP1_118, E3 MGTXRXN0_118, E4 MGTXRXP0_118, E7 MGTREFCLK1N_118, E8 MGTREFCLK1P_118, F1 MGTXTXN3_117, F2 MGTXTXP3_117, F5 MGTXRXN3_117, F6 MGTXRXP3_117, G3 MGTXRXN2_117, G4 MGTXRXP2_117, G7 MGTREFCLK0N_117, G8 MGTREFCLK0P_117, H1 MGTXTXN2_117, H2 MGTXTXP2_117, H5 MGTXRXN1_117, H6 MGTXRXP1_117, J3 MGTXTXN1_117, J4 MGTXTXP1_117, J7 MGTREFCLK1N_117, J8 MGTREFCLK1P_117, K1 MGTXTXN0_117, K2 MGTXTXP0_117, K5 MGTXRXN0_117, K6 MGTXRXP0_117
part H pins: B3 MGTAVTT, B7 MGTAVCC, C5 MGTAVTT, D3 MGTAVTT, D7 MGTAVCC, E5 MGTAVTT, F3 MGTAVTT, F7 MGTAVCC, G5 MGTAVTT, H3 MGTAVTT, H7 MGTAVCC, J5 MGTAVTT, K3 MGTAVTT, K7 MGTAVCC, L5 MGTAVTT, M3 MGTAVTT, M7 MGTAVCC, N5 MGTAVTT, P3 MGTAVTT, P7 MGTAVCC, R5 MGTAVTT, T3 MGTAVTT, T7 MGTVCCAUX, U5 MGTAVTT, V3 MGTAVTT, V7 MGTVCCAUX, W5 MGTAVTT, W7 MGTAVTTRCAL_115, W8 MGTRREF_115
part I pins: A10 INIT_B_0, AB1 M2_0, AB2 M1_0, AB5 M0_0, AB6 VCCO_0, B10 CCLK_0, E10 TCK_0, F10 TMS_0, G10 TDO_0, H10 TDI_0, K10 PROGRAM_B_0, L10 CFGBVS_0, M10 DONE_0, R14 VREFN_0, R15 VP_0, T9 VCCO_0, T14 VN_0, T15 VREFP_0, U14 DXN_0, U15 DXP_0
part J pins: A1 GND, A2 GND, A5 GND, A6 GND, A9 GND, A14 GND, A24 GND, B4 GND, B8 GND, B9 GND, B11 GND, B21 GND, C1 GND, C2 GND, C6 GND, C9 GND, C10 VCCBATT_0, C18 GND, C28 GND, D4 GND, D8 GND, D9 GND, D15 GND, D25 GND, E1 GND, E2 GND, E6 GND, E9 GND, E12 GND, E22 GND, F4 GND, F8 GND, F9 GND, F19 GND, F29 GND, G1 GND, G2 GND, G6 GND, G9 GND, G16 GND, G26 GND, H4 GND, H8 GND, H9 GND, H13 GND, H23 GND, J1 GND, J2 GND, J6 GND, J9 GND, J10 GND, J20 GND, J30 GND, K4 GND, K8 GND, K9 GND, K17 GND, K27 GND, L1 GND, L2 GND, L6 GND, L9 GND, L14 GND, L24 GND, M4 GND, M8 GND, M9 GND, M11 VCCINT, M12 GND, M13 VCCINT, M14 GND, M15 VCCINT, M16 GND, M17 VCCINT, M18 GND, M21 GND, N1 GND, N2 GND, N6 GND, N9 GND, N10 VCCINT, N11 GND, N12 VCCINT, N13 GND, N14 VCCINT, N15 GND, N16 VCCBRAM, N17 GND, N18 VCCINT, N28 GND, P4 GND, P8 GND, P9 GND, P10 GND, P11 VCCINT, P12 GND, P13 VCCAUX, P14 GNDADC_0, P15 VCCADC_0, P16 GND, P17 VCCINT, P18 GND, P25 GND, R1 GND, R2 GND, R6 GND, R9 GND, R10 VCCINT, R11 GND, R12 VCCINT, R13 GND, R16 VCCBRAM, R17 GND, R18 VCCINT, R22 GND, T4 GND, T8 GND, T10 GND, T11 VCCINT, T12 GND, T13 VCCAUX, T17 VCCINT, U10 VCCINT, U12 VCCINT, U16 VCCBRAM, U18 VCCINT, V11 VCCAUX_IO_G0, V13 VCCAUX, V15 VCCAUX, V17 VCCINT, W10 VCCAUX_IO_G0, W12 VCCAUX_IO_G0, W14 VCCAUX, W16 VCCBRAM, W18 VCCINT
part K pins: AA1 GND, AA2 GND, AA5 GND, AA6 GND, AA7 GND, AA14 GND, AA24 GND, AB3 GND, AB4 GND, AB11 GND, AB21 GND, AC8 GND, AC18 GND, AC28 GND, AD5 GND, AD15 GND, AD25 GND, AE2 GND, AE12 GND, AE22 GND, AF9 GND, AF19 GND, AF29 GND, AG6 GND, AG16 GND, AG26 GND, AH3 GND, AH13 GND, AH23 GND, AJ10 GND, AJ20 GND, AJ30 GND, AK7 GND, AK17 GND, AK27 GND, T16 GND, T18 GND, T19 GND, T29 GND, U1 GND, U2 GND, U6 GND, U9 GND, U11 GND, U13 GND, U17 GND, U26 GND, V4 GND, V8 GND, V9 GND, V10 GND, V12 GND, V14 GND, V16 GND, V18 GND, V23 GND, W1 GND, W2 GND, W6 GND, W9 GND, W11 GND, W13 GND, W15 GND, W17 GND, W20 GND, W30 GND, Y3 GND, Y4 GND, Y7 GND, Y8 GND, Y9 GND, Y17 GND, Y27 GND

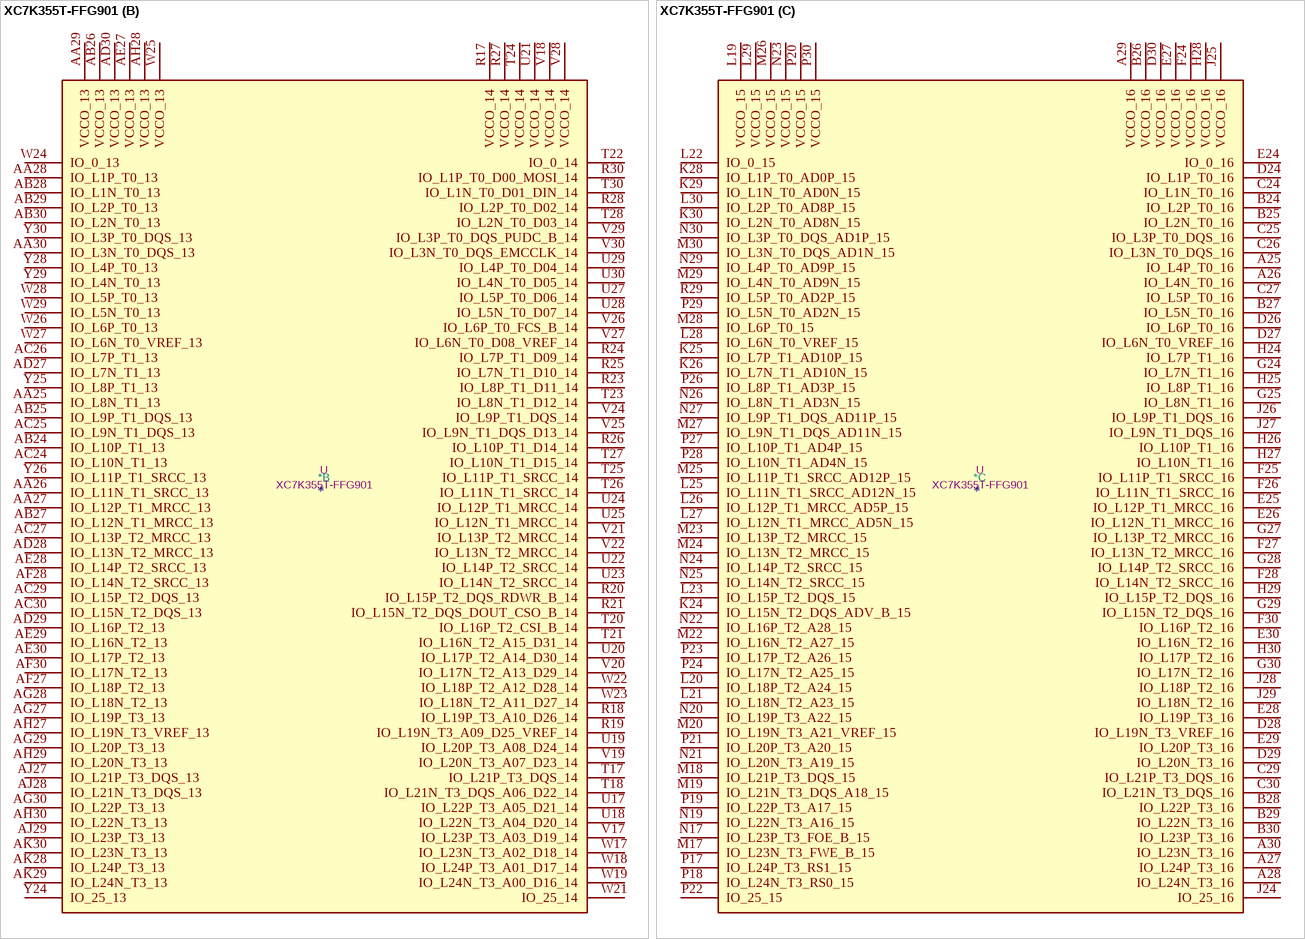
[diagram p24: symbol XC7K355T-FFG901]

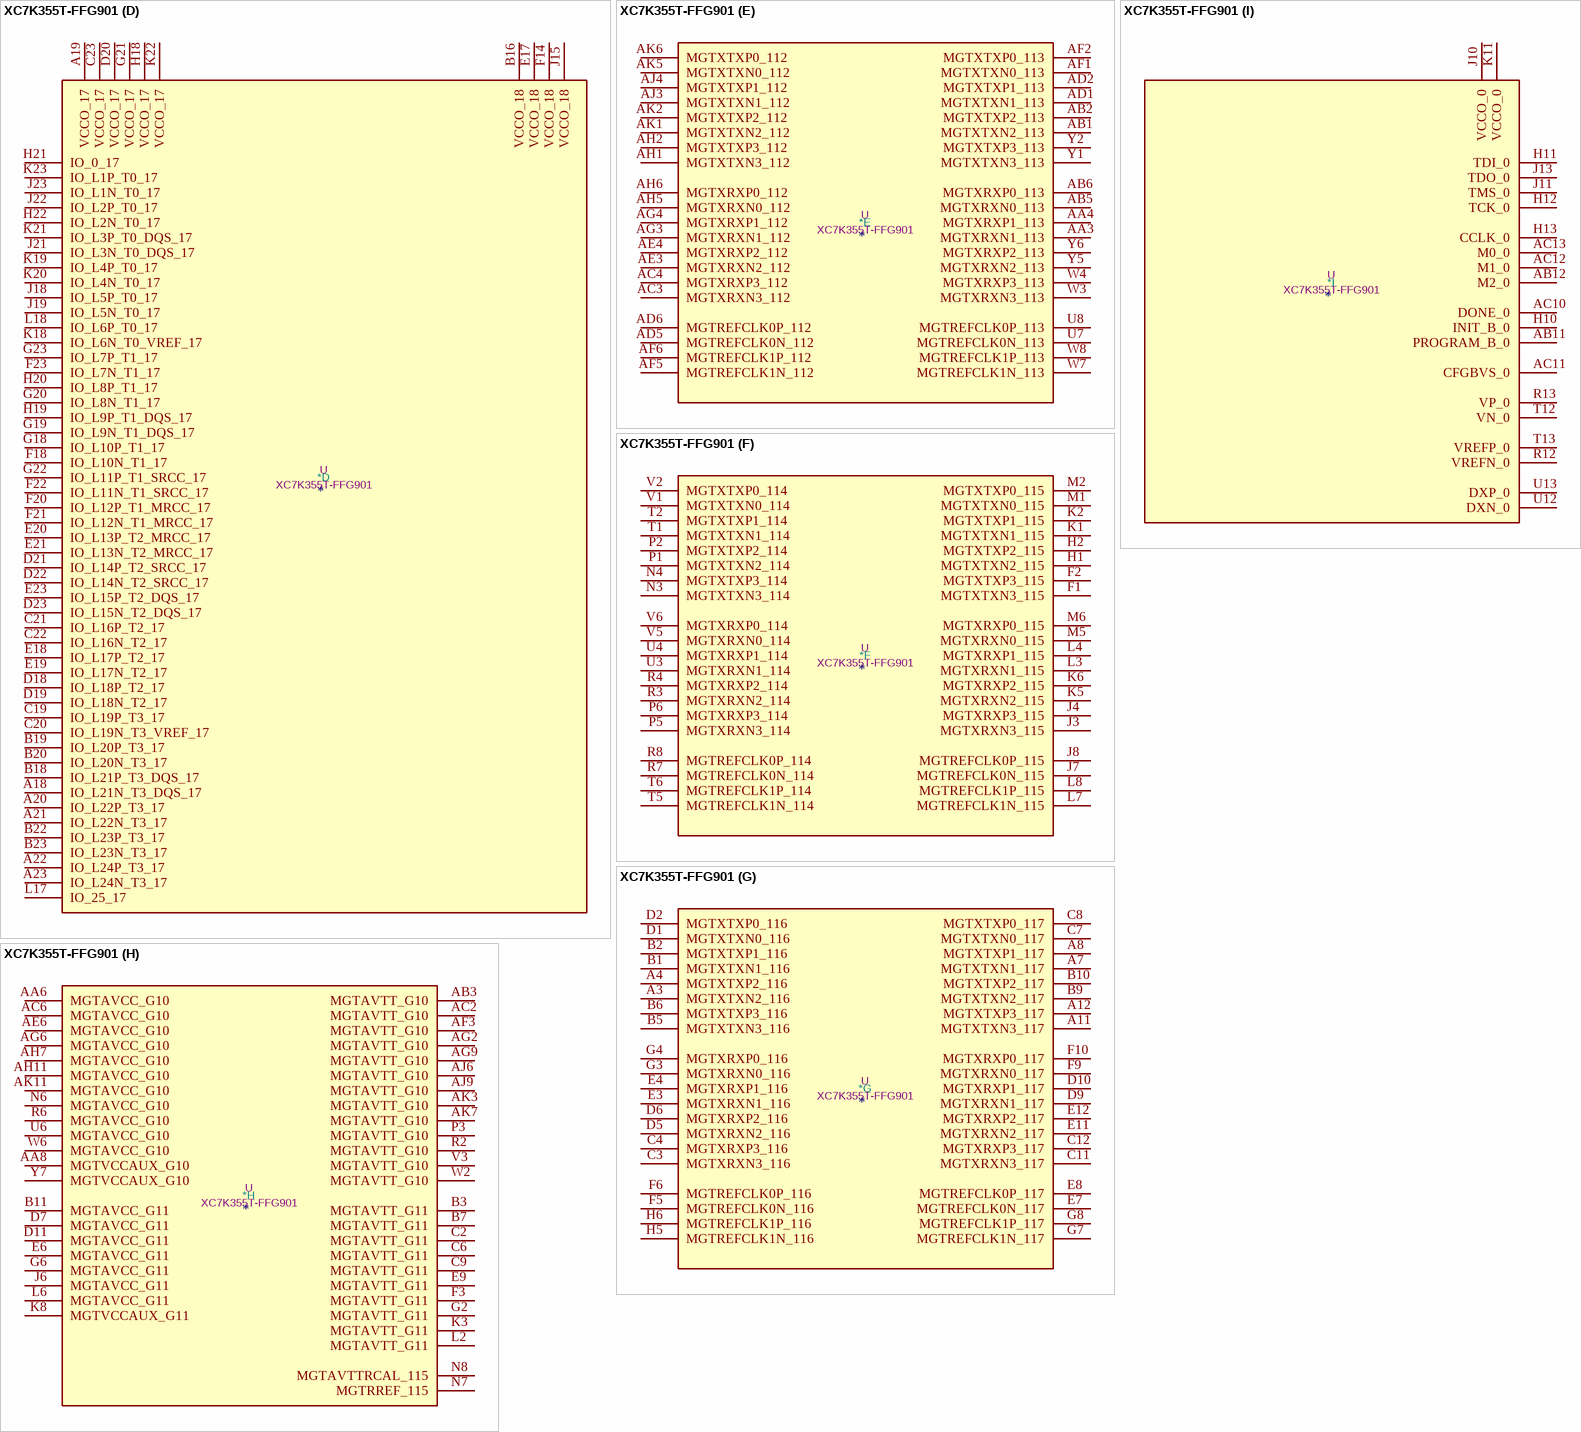
[diagram p25: symbol XC7K355T-FFG901]

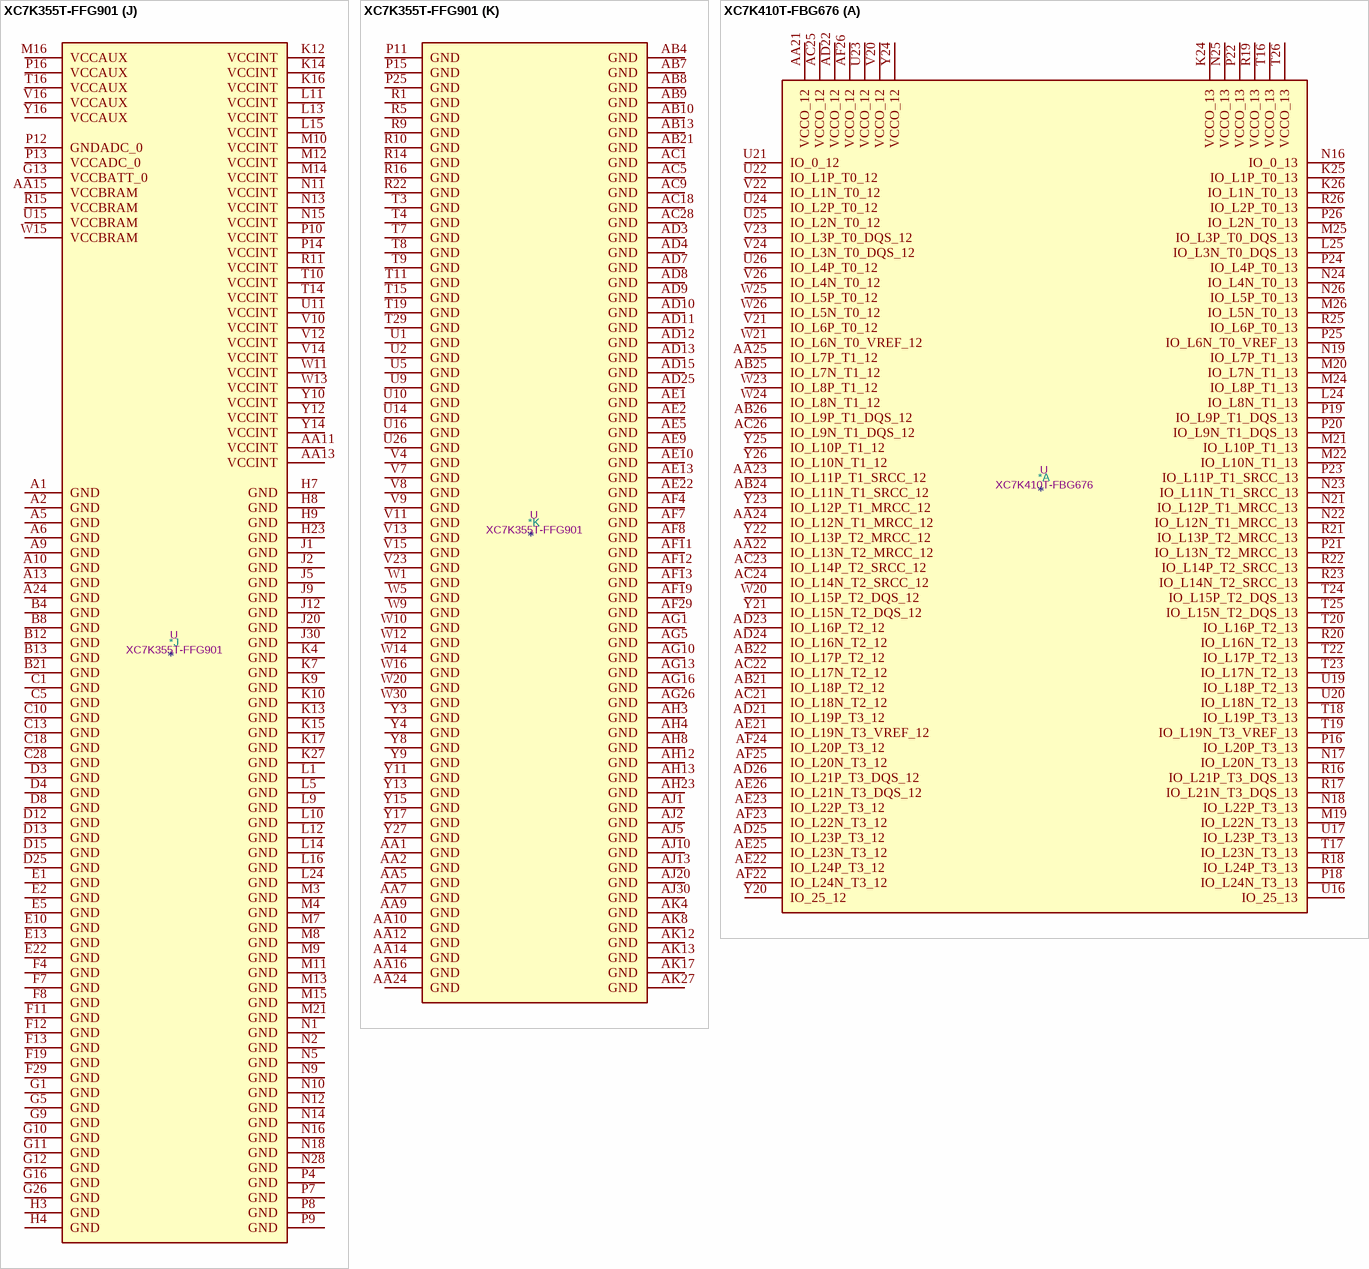
[diagram p26: symbols XC7K355T-FFG901 to XC7K410T-FBG676]

## XC7K355T-FFG901
designator *  value XC7K355T-FFG901  Reference: U
Kintex 7 T 355 XC7K355T-FFG901; ki_keywords: FPGA; Description_: Kintex 7 T 355 XC7K355T-FFG901
part A pins: AA19 VCCO_11, AA20 IO_L2P_T0_12, AA21 IO_L2N_T0_12, AA22 IO_L3P_T0_DQS_12, AA23 IO_L3N_T0_DQS_12, AB16 VCCO_11, AB20 IO_L4P_T0_12, AB22 IO_L5P_T0_12, AB23 IO_L5N_T0_12, AC20 IO_L4N_T0_12, AC21 IO_L6P_T0_12, AC22 IO_L6N_T0_VREF_12, AC23 VCCO_12, AD20 VCCO_12, AD21 IO_L16P_T2_12, AD22 IO_L16N_T2_12, AD23 IO_L15P_T2_DQS_12, AD24 IO_L10P_T1_12, AD26 IO_L7P_T1_12, AE17 VCCO_11, AE20 IO_25_12, AE21 IO_L17P_T2_12, AE23 IO_L15N_T2_DQS_12, AE24 IO_L10N_T1_12, AE25 IO_L9P_T1_DQS_12, AE26 IO_L7N_T1_12, AF14 VCCO_11, AF20 IO_L18P_T2_12, AF21 IO_L17N_T2_12, AF22 IO_L14P_T2_SRCC_12, AF23 IO_L14N_T2_SRCC_12, AF24 VCCO_12, AF25 IO_L11P_T1_SRCC_12, AF26 IO_L9N_T1_DQS_12, AG20 IO_L18N_T2_12, AG21 VCCO_12, AG22 IO_L13P_T2_MRCC_12, AG23 IO_L13N_T2_MRCC_12, AG24 IO_L12P_T1_MRCC_12, AG25 IO_L11N_T1_SRCC_12, AH18 VCCO_11, AH21 IO_L19P_T3_12, AH22 IO_L19N_T3_VREF_12, AH24 IO_L12N_T1_MRCC_12, AH25 IO_L8P_T1_12, AH26 IO_L8N_T1_12, AJ15 VCCO_11, AJ21 IO_L20P_T3_12, AJ22 IO_L21P_T3_DQS_12, AJ23 IO_L22P_T3_12, AJ24 IO_L22N_T3_12, AJ25 VCCO_12, AJ26 IO_L24P_T3_12, AK21 IO_L20N_T3_12, AK22 VCCO_12, AK23 IO_L21N_T3_DQS_12, AK24 IO_L23P_T3_12, AK25 IO_L23N_T3_12, AK26 IO_L24N_T3_12, Y20 IO_L1P_T0_12, Y21 IO_L1N_T0_12, Y22 VCCO_12, Y23 IO_0_12
part B pins: AA25 IO_L8N_T1_13, AA26 IO_L11N_T1_SRCC_13, AA27 IO_L12P_T1_MRCC_13, AA28 IO_L1P_T0_13, AA29 VCCO_13, AA30 IO_L3N_T0_DQS_13, AB24 IO_L10P_T1_13, AB25 IO_L9P_T1_DQS_13, AB26 VCCO_13, AB27 IO_L12N_T1_MRCC_13, AB28 IO_L1N_T0_13, AB29 IO_L2P_T0_13, AB30 IO_L2N_T0_13, AC24 IO_L10N_T1_13, AC25 IO_L9N_T1_DQS_13, AC26 IO_L7P_T1_13, AC27 IO_L13P_T2_MRCC_13, AC29 IO_L15P_T2_DQS_13, AC30 IO_L15N_T2_DQS_13, AD27 IO_L7N_T1_13, AD28 IO_L13N_T2_MRCC_13, AD29 IO_L16P_T2_13, AD30 VCCO_13, AE27 VCCO_13, AE28 IO_L14P_T2_SRCC_13, AE29 IO_L16N_T2_13, AE30 IO_L17P_T2_13, AF27 IO_L18P_T2_13, AF28 IO_L14N_T2_SRCC_13, AF30 IO_L17N_T2_13, AG27 IO_L19P_T3_13, AG28 IO_L18N_T2_13, AG29 IO_L20P_T3_13, AG30 IO_L22P_T3_13, AH27 IO_L19N_T3_VREF_13, AH28 VCCO_13, AH29 IO_L20N_T3_13, AH30 IO_L22N_T3_13, AJ27 IO_L21P_T3_DQS_13, AJ28 IO_L21N_T3_DQS_13, AJ29 IO_L23P_T3_13, AK28 IO_L24P_T3_13, AK29 IO_L24N_T3_13, AK30 IO_L23N_T3_13, R17 VCCO_14, R18 IO_L19P_T3_A10_D26_14, R19 IO_L19N_T3_A09_D25_VREF_14, R20 IO_L15P_T2_DQS_RDWR_B_14, R21 IO_L15N_T2_DQS_DOUT_CSO_B_14, R23 IO_L8P_T1_D11_14, R24 IO_L7P_T1_D09_14, R25 IO_L7N_T1_D10_14, R26 IO_L10P_T1_D14_14, R27 VCCO_14, R28 IO_L2P_T0_D02_14, R30 IO_L1P_T0_D00_MOSI_14, T17 IO_L21P_T3_DQS_14, T18 IO_L21N_T3_DQS_A06_D22_14, T20 IO_L16P_T2_CSI_B_14, T21 IO_L16N_T2_A15_D31_14, T22 IO_0_14, T23 IO_L8N_T1_D12_14, T24 VCCO_14, T25 IO_L11P_T1_SRCC_14, T26 IO_L11N_T1_SRCC_14, T27 IO_L10N_T1_D15_14, T28 IO_L2N_T0_D03_14, T30 IO_L1N_T0_D01_DIN_14, U17 IO_L22P_T3_A05_D21_14, U18 IO_L22N_T3_A04_D20_14, U19 IO_L20P_T3_A08_D24_14, U20 IO_L17P_T2_A14_D30_14, U21 VCCO_14, U22 IO_L14P_T2_SRCC_14, U23 IO_L14N_T2_SRCC_14, U24 IO_L12P_T1_MRCC_14, U25 IO_L12N_T1_MRCC_14, U27 IO_L5P_T0_D06_14, U28 IO_L5N_T0_D07_14, U29 IO_L4P_T0_D04_14, U30 IO_L4N_T0_D05_14, V17 IO_L23P_T3_A03_D19_14, V18 VCCO_14, V19 IO_L20N_T3_A07_D23_14, V20 IO_L17N_T2_A13_D29_14, V21 IO_L13P_T2_MRCC_14, V22 IO_L13N_T2_MRCC_14, V24 IO_L9P_T1_DQS_14, V25 IO_L9N_T1_DQS_D13_14, V26 IO_L6P_T0_FCS_B_14, V27 IO_L6N_T0_D08_VREF_14, V28 VCCO_14, V29 IO_L3P_T0_DQS_PUDC_B_14, V30 IO_L3N_T0_DQS_EMCCLK_14, W17 IO_L23N_T3_A02_D18_14, W18 IO_L24P_T3_A01_D17_14, W19 IO_L24N_T3_A00_D16_14, W21 IO_25_14, W22 IO_L18P_T2_A12_D28_14, W23 IO_L18N_T2_A11_D27_14, W24 IO_0_13, W25 VCCO_13, W26 IO_L6P_T0_13, W27 IO_L6N_T0_VREF_13, W28 IO_L5P_T0_13, W29 IO_L5N_T0_13, Y24 IO_25_13, Y25 IO_L8P_T1_13, Y26 IO_L11P_T1_SRCC_13, Y28 IO_L4P_T0_13, Y29 IO_L4N_T0_13, Y30 IO_L3P_T0_DQS_13
part C pins: A25 IO_L4P_T0_16, A26 IO_L4N_T0_16, A27 IO_L24P_T3_16, A28 IO_L24N_T3_16, A29 VCCO_16, A30 IO_L23N_T3_16, B24 IO_L2P_T0_16, B25 IO_L2N_T0_16, B26 VCCO_16, B27 IO_L5N_T0_16, B28 IO_L22P_T3_16, B29 IO_L22N_T3_16, B30 IO_L23P_T3_16, C24 IO_L1N_T0_16, C25 IO_L3P_T0_DQS_16, C26 IO_L3N_T0_DQS_16, C27 IO_L5P_T0_16, C29 IO_L21P_T3_DQS_16, C30 IO_L21N_T3_DQS_16, D24 IO_L1P_T0_16, D26 IO_L6P_T0_16, D27 IO_L6N_T0_VREF_16, D28 IO_L19N_T3_VREF_16, D29 IO_L20N_T3_16, D30 VCCO_16, E24 IO_0_16, E25 IO_L12P_T1_MRCC_16, E26 IO_L12N_T1_MRCC_16, E27 VCCO_16, E28 IO_L19P_T3_16, E29 IO_L20P_T3_16, E30 IO_L16N_T2_16, F24 VCCO_16, F25 IO_L11P_T1_SRCC_16, F26 IO_L11N_T1_SRCC_16, F27 IO_L13N_T2_MRCC_16, F28 IO_L14N_T2_SRCC_16, F30 IO_L16P_T2_16, G24 IO_L7N_T1_16, G25 IO_L8N_T1_16, G27 IO_L13P_T2_MRCC_16, G28 IO_L14P_T2_SRCC_16, G29 IO_L15N_T2_DQS_16, G30 IO_L17N_T2_16, H24 IO_L7P_T1_16, H25 IO_L8P_T1_16, H26 IO_L10P_T1_16, H27 IO_L10N_T1_16, H28 VCCO_16, H29 IO_L15P_T2_DQS_16, H30 IO_L17P_T2_16, J24 IO_25_16, J25 VCCO_16, J26 IO_L9P_T1_DQS_16, J27 IO_L9N_T1_DQS_16, J28 IO_L18P_T2_16, J29 IO_L18N_T2_16, K24 IO_L15N_T2_DQS_ADV_B_15, K25 IO_L7P_T1_AD10P_15, K26 IO_L7N_T1_AD10N_15, K28 IO_L1P_T0_AD0P_15, K29 IO_L1N_T0_AD0N_15, K30 IO_L2N_T0_AD8N_15, L19 VCCO_15, L20 IO_L18P_T2_A24_15, L21 IO_L18N_T2_A23_15, L22 IO_0_15, L23 IO_L15P_T2_DQS_15, L25 IO_L11N_T1_SRCC_AD12N_15, L26 IO_L12P_T1_MRCC_AD5P_15, L27 IO_L12N_T1_MRCC_AD5N_15, L28 IO_L6N_T0_VREF_15, L29 VCCO_15, L30 IO_L2P_T0_AD8P_15, M17 IO_L23N_T3_FWE_B_15, M18 IO_L21P_T3_DQS_15, M19 IO_L21N_T3_DQS_A18_15, M20 IO_L19N_T3_A21_VREF_15, M22 IO_L16N_T2_A27_15, M23 IO_L13P_T2_MRCC_15, M24 IO_L13N_T2_MRCC_15, M25 IO_L11P_T1_SRCC_AD12P_15, M26 VCCO_15, M27 IO_L9N_T1_DQS_AD11N_15, M28 IO_L6P_T0_15, M29 IO_L4N_T0_AD9N_15, M30 IO_L3N_T0_DQS_AD1N_15, N17 IO_L23P_T3_FOE_B_15, N19 IO_L22N_T3_A16_15, N20 IO_L19P_T3_A22_15, N21 IO_L20N_T3_A19_15, N22 IO_L16P_T2_A28_15, N23 VCCO_15, N24 IO_L14P_T2_SRCC_15, N25 IO_L14N_T2_SRCC_15, N26 IO_L8N_T1_AD3N_15, N27 IO_L9P_T1_DQS_AD11P_15, N29 IO_L4P_T0_AD9P_15, N30 IO_L3P_T0_DQS_AD1P_15, P17 IO_L24P_T3_RS1_15, P18 IO_L24N_T3_RS0_15, P19 IO_L22P_T3_A17_15, P20 VCCO_15, P21 IO_L20P_T3_A20_15, P22 IO_25_15, P23 IO_L17P_T2_A26_15, P24 IO_L17N_T2_A25_15, P26 IO_L8P_T1_AD3P_15, P27 IO_L10P_T1_AD4P_15, P28 IO_L10N_T1_AD4N_15, P29 IO_L5N_T0_AD2N_15, P30 VCCO_15, R29 IO_L5P_T0_AD2P_15
part D pins: A18 IO_L21N_T3_DQS_17, A19 VCCO_17, A20 IO_L22P_T3_17, A21 IO_L22N_T3_17, A22 IO_L24P_T3_17, A23 IO_L24N_T3_17, B16 VCCO_18, B18 IO_L21P_T3_DQS_17, B19 IO_L20P_T3_17, B20 IO_L20N_T3_17, B22 IO_L23P_T3_17, B23 IO_L23N_T3_17, C19 IO_L19P_T3_17, C20 IO_L19N_T3_VREF_17, C21 IO_L16P_T2_17, C22 IO_L16N_T2_17, C23 VCCO_17, D18 IO_L18P_T2_17, D19 IO_L18N_T2_17, D20 VCCO_17, D21 IO_L14P_T2_SRCC_17, D22 IO_L14N_T2_SRCC_17, D23 IO_L15N_T2_DQS_17, E17 VCCO_18, E18 IO_L17P_T2_17, E19 IO_L17N_T2_17, E20 IO_L13P_T2_MRCC_17, E21 IO_L13N_T2_MRCC_17, E23 IO_L15P_T2_DQS_17, F14 VCCO_18, F18 IO_L10N_T1_17, F20 IO_L12P_T1_MRCC_17, F21 IO_L12N_T1_MRCC_17, F22 IO_L11N_T1_SRCC_17, F23 IO_L7N_T1_17, G18 IO_L10P_T1_17, G19 IO_L9N_T1_DQS_17, G20 IO_L8N_T1_17, G21 VCCO_17, G22 IO_L11P_T1_SRCC_17, G23 IO_L7P_T1_17, H18 VCCO_17, H19 IO_L9P_T1_DQS_17, H20 IO_L8P_T1_17, H21 IO_0_17, H22 IO_L2N_T0_17, J15 VCCO_18, J18 IO_L5P_T0_17, J19 IO_L5N_T0_17, J21 IO_L3N_T0_DQS_17, J22 IO_L2P_T0_17, J23 IO_L1N_T0_17, K18 IO_L6N_T0_VREF_17, K19 IO_L4P_T0_17, K20 IO_L4N_T0_17, K21 IO_L3P_T0_DQS_17, K22 VCCO_17, K23 IO_L1P_T0_17, L17 IO_25_17, L18 IO_L6P_T0_17
part E pins: AA3 MGTXRXN1_113, AA4 MGTXRXP1_113, AB1 MGTXTXN2_113, AB2 MGTXTXP2_113, AB5 MGTXRXN0_113, AB6 MGTXRXP0_113, AC3 MGTXRXN3_112, AC4 MGTXRXP3_112, AD1 MGTXTXN1_113, AD2 MGTXTXP1_113, AD5 MGTREFCLK0N_112, AD6 MGTREFCLK0P_112, AE3 MGTXRXN2_112, AE4 MGTXRXP2_112, AF1 MGTXTXN0_113, AF2 MGTXTXP0_113, AF5 MGTREFCLK1N_112, AF6 MGTREFCLK1P_112, AG3 MGTXRXN1_112, AG4 MGTXRXP1_112, AH1 MGTXTXN3_112, AH2 MGTXTXP3_112, AH5 MGTXRXN0_112, AH6 MGTXRXP0_112, AJ3 MGTXTXN1_112, AJ4 MGTXTXP1_112, AK1 MGTXTXN2_112, AK2 MGTXTXP2_112, AK5 MGTXTXN0_112, AK6 MGTXTXP0_112, U7 MGTREFCLK0N_113, U8 MGTREFCLK0P_113, W3 MGTXRXN3_113, W4 MGTXRXP3_113, W7 MGTREFCLK1N_113, W8 MGTREFCLK1P_113, Y1 MGTXTXN3_113, Y2 MGTXTXP3_113, Y5 MGTXRXN2_113, Y6 MGTXRXP2_113
part F pins: F1 MGTXTXN3_115, F2 MGTXTXP3_115, H1 MGTXTXN2_115, H2 MGTXTXP2_115, J3 MGTXRXN3_115, J4 MGTXRXP3_115, J7 MGTREFCLK0N_115, J8 MGTREFCLK0P_115, K1 MGTXTXN1_115, K2 MGTXTXP1_115, K5 MGTXRXN2_115, K6 MGTXRXP2_115, L3 MGTXRXN1_115, L4 MGTXRXP1_115, L7 MGTREFCLK1N_115, L8 MGTREFCLK1P_115, M1 MGTXTXN0_115, M2 MGTXTXP0_115, M5 MGTXRXN0_115, M6 MGTXRXP0_115, N3 MGTXTXN3_114, N4 MGTXTXP3_114, P1 MGTXTXN2_114, P2 MGTXTXP2_114, P5 MGTXRXN3_114, P6 MGTXRXP3_114, R3 MGTXRXN2_114, R4 MGTXRXP2_114, R7 MGTREFCLK0N_114, R8 MGTREFCLK0P_114, T1 MGTXTXN1_114, T2 MGTXTXP1_114, T5 MGTREFCLK1N_114, T6 MGTREFCLK1P_114, U3 MGTXRXN1_114, U4 MGTXRXP1_114, V1 MGTXTXN0_114, V2 MGTXTXP0_114, V5 MGTXRXN0_114, V6 MGTXRXP0_114
part G pins: A3 MGTXTXN2_116, A4 MGTXTXP2_116, A7 MGTXTXN1_117, A8 MGTXTXP1_117, A11 MGTXTXN3_117, A12 MGTXTXP3_117, B1 MGTXTXN1_116, B2 MGTXTXP1_116, B5 MGTXTXN3_116, B6 MGTXTXP3_116, B9 MGTXTXN2_117, B10 MGTXTXP2_117, C3 MGTXRXN3_116, C4 MGTXRXP3_116, C7 MGTXTXN0_117, C8 MGTXTXP0_117, C11 MGTXRXN3_117, C12 MGTXRXP3_117, D1 MGTXTXN0_116, D2 MGTXTXP0_116, D5 MGTXRXN2_116, D6 MGTXRXP2_116, D9 MGTXRXN1_117, D10 MGTXRXP1_117, E3 MGTXRXN1_116, E4 MGTXRXP1_116, E7 MGTREFCLK0N_117, E8 MGTREFCLK0P_117, E11 MGTXRXN2_117, E12 MGTXRXP2_117, F5 MGTREFCLK0N_116, F6 MGTREFCLK0P_116, F9 MGTXRXN0_117, F10 MGTXRXP0_117, G3 MGTXRXN0_116, G4 MGTXRXP0_116, G7 MGTREFCLK1N_117, G8 MGTREFCLK1P_117, H5 MGTREFCLK1N_116, H6 MGTREFCLK1P_116
part H pins: AA6 MGTAVCC_G10, AA8 MGTVCCAUX_G10, AB3 MGTAVTT_G10, AC2 MGTAVTT_G10, AC6 MGTAVCC_G10, AE6 MGTAVCC_G10, AF3 MGTAVTT_G10, AG2 MGTAVTT_G10, AG6 MGTAVCC_G10, AG9 MGTAVTT_G10, AH7 MGTAVCC_G10, AH11 MGTAVCC_G10, AJ6 MGTAVTT_G10, AJ9 MGTAVTT_G10, AK3 MGTAVTT_G10, AK7 MGTAVTT_G10, AK11 MGTAVCC_G10, B3 MGTAVTT_G11, B7 MGTAVTT_G11, B11 MGTAVCC_G11, C2 MGTAVTT_G11, C6 MGTAVTT_G11, C9 MGTAVTT_G11, D7 MGTAVCC_G11, D11 MGTAVCC_G11, E6 MGTAVCC_G11, E9 MGTAVTT_G11, F3 MGTAVTT_G11, G2 MGTAVTT_G11, G6 MGTAVCC_G11, J6 MGTAVCC_G11, K3 MGTAVTT_G11, K8 MGTVCCAUX_G11, L2 MGTAVTT_G11, L6 MGTAVCC_G11, N6 MGTAVCC_G10, N7 MGTRREF_115, N8 MGTAVTTRCAL_115, P3 MGTAVTT_G10, R2 MGTAVTT_G10, R6 MGTAVCC_G10, U6 MGTAVCC_G10, V3 MGTAVTT_G10, W2 MGTAVTT_G10, W6 MGTAVCC_G10, Y7 MGTVCCAUX_G10
part I pins: AB11 PROGRAM_B_0, AB12 M2_0, AC10 DONE_0, AC11 CFGBVS_0, AC12 M1_0, AC13 M0_0, H10 INIT_B_0, H11 TDI_0, H12 TCK_0, H13 CCLK_0, J10 VCCO_0, J11 TMS_0, J13 TDO_0, K11 VCCO_0, R12 VREFN_0, R13 VP_0, T12 VN_0, T13 VREFP_0, U12 DXN_0, U13 DXP_0
part J pins: A1 GND, A2 GND, A5 GND, A6 GND, A9 GND, A10 GND, A13 GND, A24 GND, AA11 VCCINT, AA13 VCCINT, AA15 VCCBRAM, B4 GND, B8 GND, B12 GND, B13 GND, B21 GND, C1 GND, C5 GND, C10 GND, C13 GND, C18 GND, C28 GND, D3 GND, D4 GND, D8 GND, D12 GND, D13 GND, D15 GND, D25 GND, E1 GND, E2 GND, E5 GND, E10 GND, E13 GND, E22 GND, F4 GND, F7 GND, F8 GND, F11 GND, F12 GND, F13 GND, F19 GND, F29 GND, G1 GND, G5 GND, G9 GND, G10 GND, G11 GND, G12 GND, G13 VCCBATT_0, G16 GND, G26 GND, H3 GND, H4 GND, H7 GND, H8 GND, H9 GND, H23 GND, J1 GND, J2 GND, J5 GND, J9 GND, J12 GND, J20 GND, J30 GND, K4 GND, K7 GND, K9 GND, K10 GND, K12 VCCINT, K13 GND, K14 VCCINT, K15 GND, K16 VCCINT, K17 GND, K27 GND, L1 GND, L5 GND, L9 GND, L10 GND, L11 VCCINT, L12 GND, L13 VCCINT, L14 GND, L15 VCCINT, L16 GND, L24 GND, M3 GND, M4 GND, M7 GND, M8 GND, M9 GND, M10 VCCINT, M11 GND, M12 VCCINT, M13 GND, M14 VCCINT, M15 GND, M16 VCCAUX, M21 GND, N1 GND, N2 GND, N5 GND, N9 GND, N10 GND, N11 VCCINT, N12 GND, N13 VCCINT, N14 GND, N15 VCCINT, N16 GND, N18 GND, N28 GND, P4 GND, P7 GND, P8 GND, P9 GND, P10 VCCINT, P12 GNDADC_0, P13 VCCADC_0, P14 VCCINT, P16 VCCAUX, R11 VCCINT, R15 VCCBRAM, T10 VCCINT, T14 VCCINT, T16 VCCAUX, U11 VCCINT, U15 VCCBRAM, V10 VCCINT, V12 VCCINT, V14 VCCINT, V16 VCCAUX, W11 VCCINT, W13 VCCINT, W15 VCCBRAM, Y10 VCCINT, Y12 VCCINT, Y14 VCCINT, Y16 VCCAUX
part K pins: AA1 GND, AA2 GND, AA5 GND, AA7 GND, AA9 GND, AA10 GND, AA12 GND, AA14 GND, AA16 GND, AA24 GND, AB4 GND, AB7 GND, AB8 GND, AB9 GND, AB10 GND, AB13 GND, AB21 GND, AC1 GND, AC5 GND, AC9 GND, AC18 GND, AC28 GND, AD3 GND, AD4 GND, AD7 GND, AD8 GND, AD9 GND, AD10 GND, AD11 GND, AD12 GND, AD13 GND, AD15 GND, AD25 GND, AE1 GND, AE2 GND, AE5 GND, AE9 GND, AE10 GND, AE13 GND, AE22 GND, AF4 GND, AF7 GND, AF8 GND, AF11 GND, AF12 GND, AF13 GND, AF19 GND, AF29 GND, AG1 GND, AG5 GND, AG10 GND, AG13 GND, AG16 GND, AG26 GND, AH3 GND, AH4 GND, AH8 GND, AH12 GND, AH13 GND, AH23 GND, AJ1 GND, AJ2 GND, AJ5 GND, AJ10 GND, AJ13 GND, AJ20 GND, AJ30 GND, AK4 GND, AK8 GND, AK12 GND, AK13 GND, AK17 GND, AK27 GND, P11 GND, P15 GND, P25 GND, R1 GND, R5 GND, R9 GND, R10 GND, R14 GND, R16 GND, R22 GND, T3 GND, T4 GND, T7 GND, T8 GND, T9 GND, T11 GND, T15 GND, T19 GND, T29 GND, U1 GND, U2 GND, U5 GND, U9 GND, U10 GND, U14 GND, U16 GND, U26 GND, V4 GND, V7 GND, V8 GND, V9 GND, V11 GND, V13 GND, V15 GND, V23 GND, W1 GND, W5 GND, W9 GND, W10 GND, W12 GND, W14 GND, W16 GND, W20 GND, W30 GND, Y3 GND, Y4 GND, Y8 GND, Y9 GND, Y11 GND, Y13 GND, Y15 GND, Y17 GND, Y27 GND

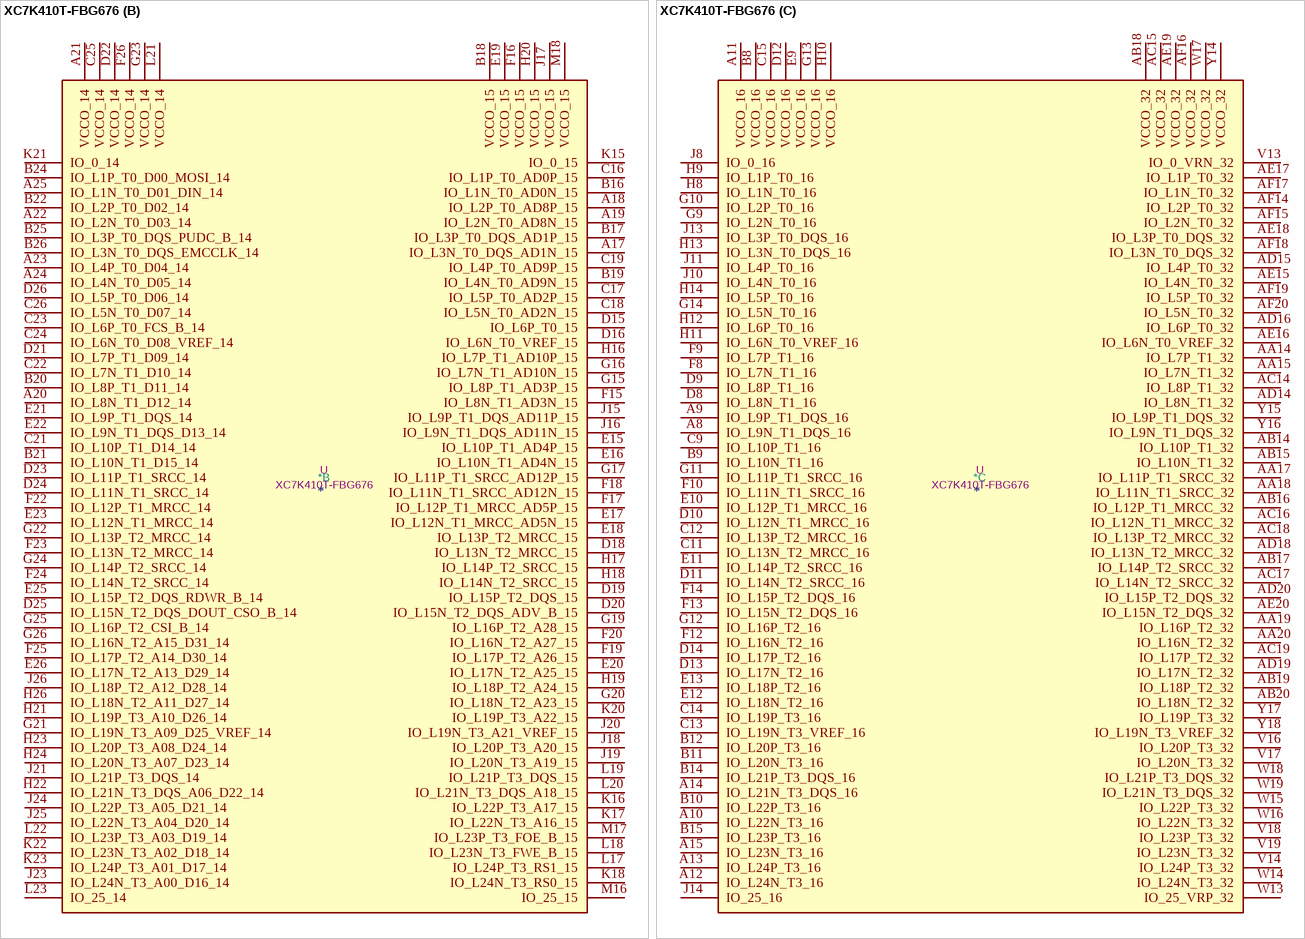
[diagram p27: symbol XC7K410T-FBG676]

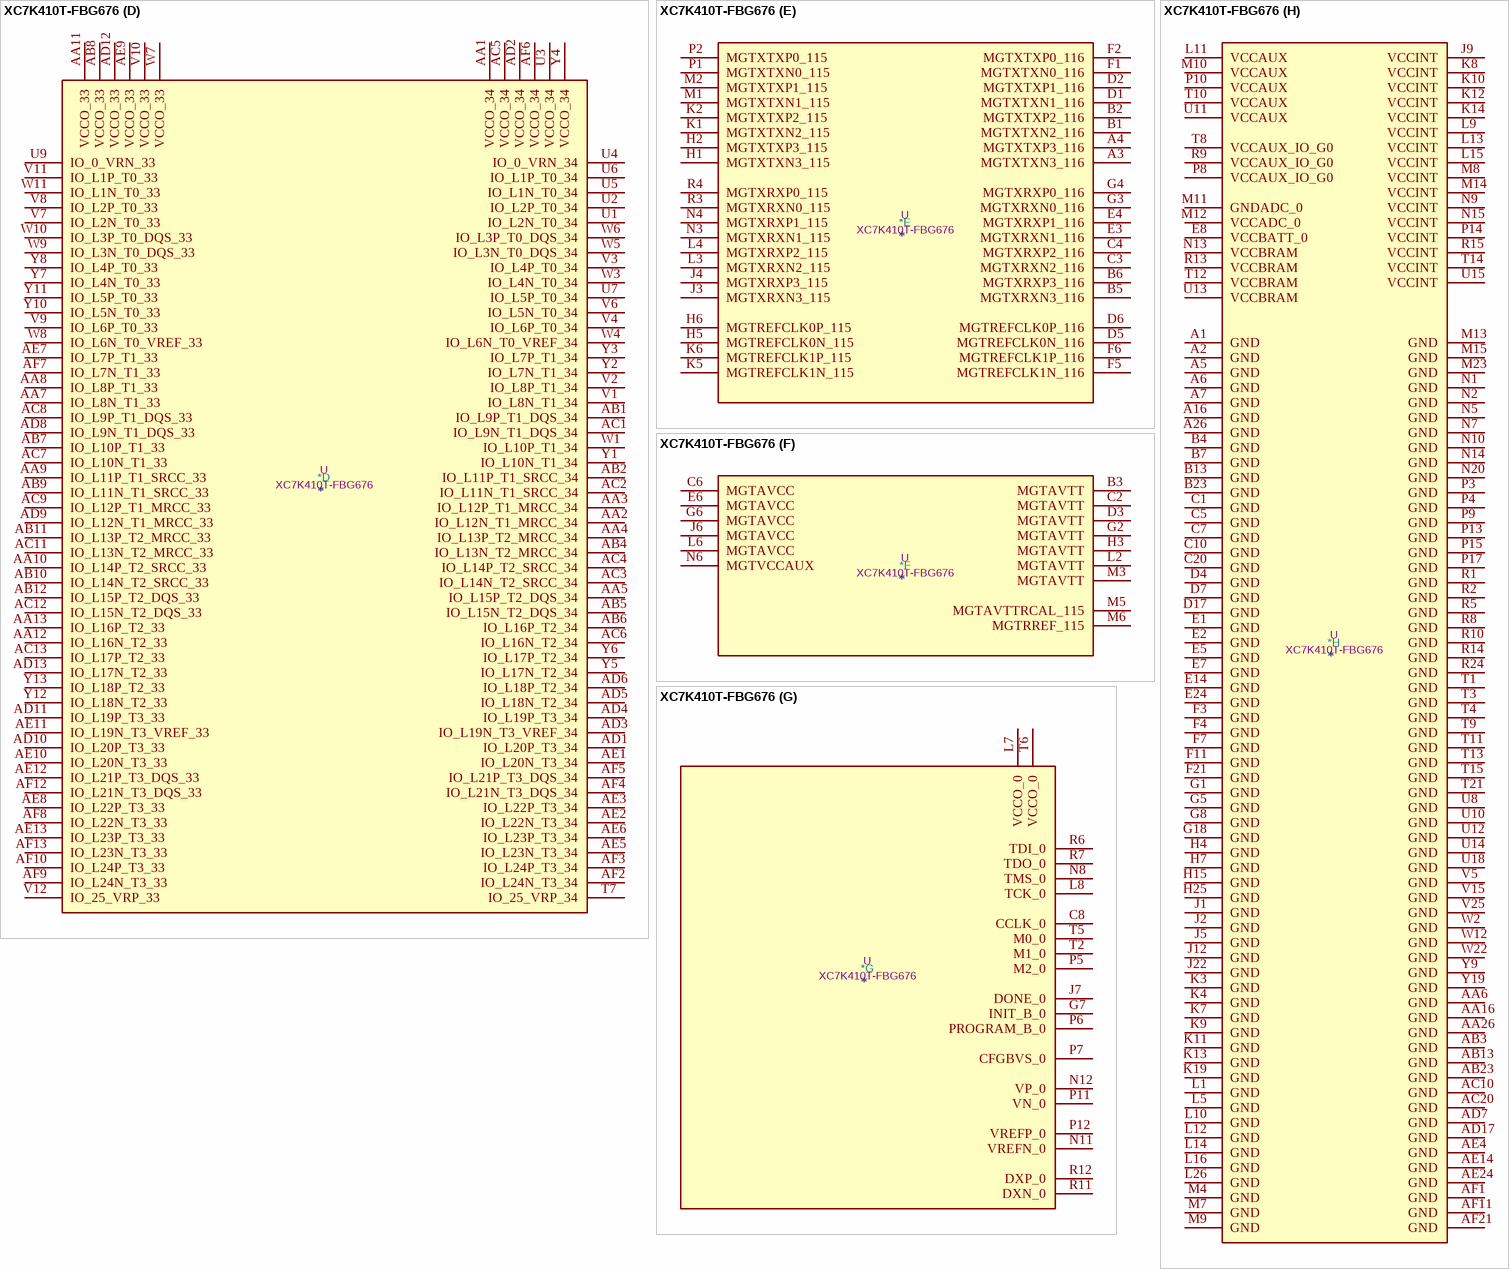
[diagram p28: symbol XC7K410T-FBG676]